# Altium integrated library Lattice FPGA XP2.IntLib: 160 symbols (part 15 of 34)
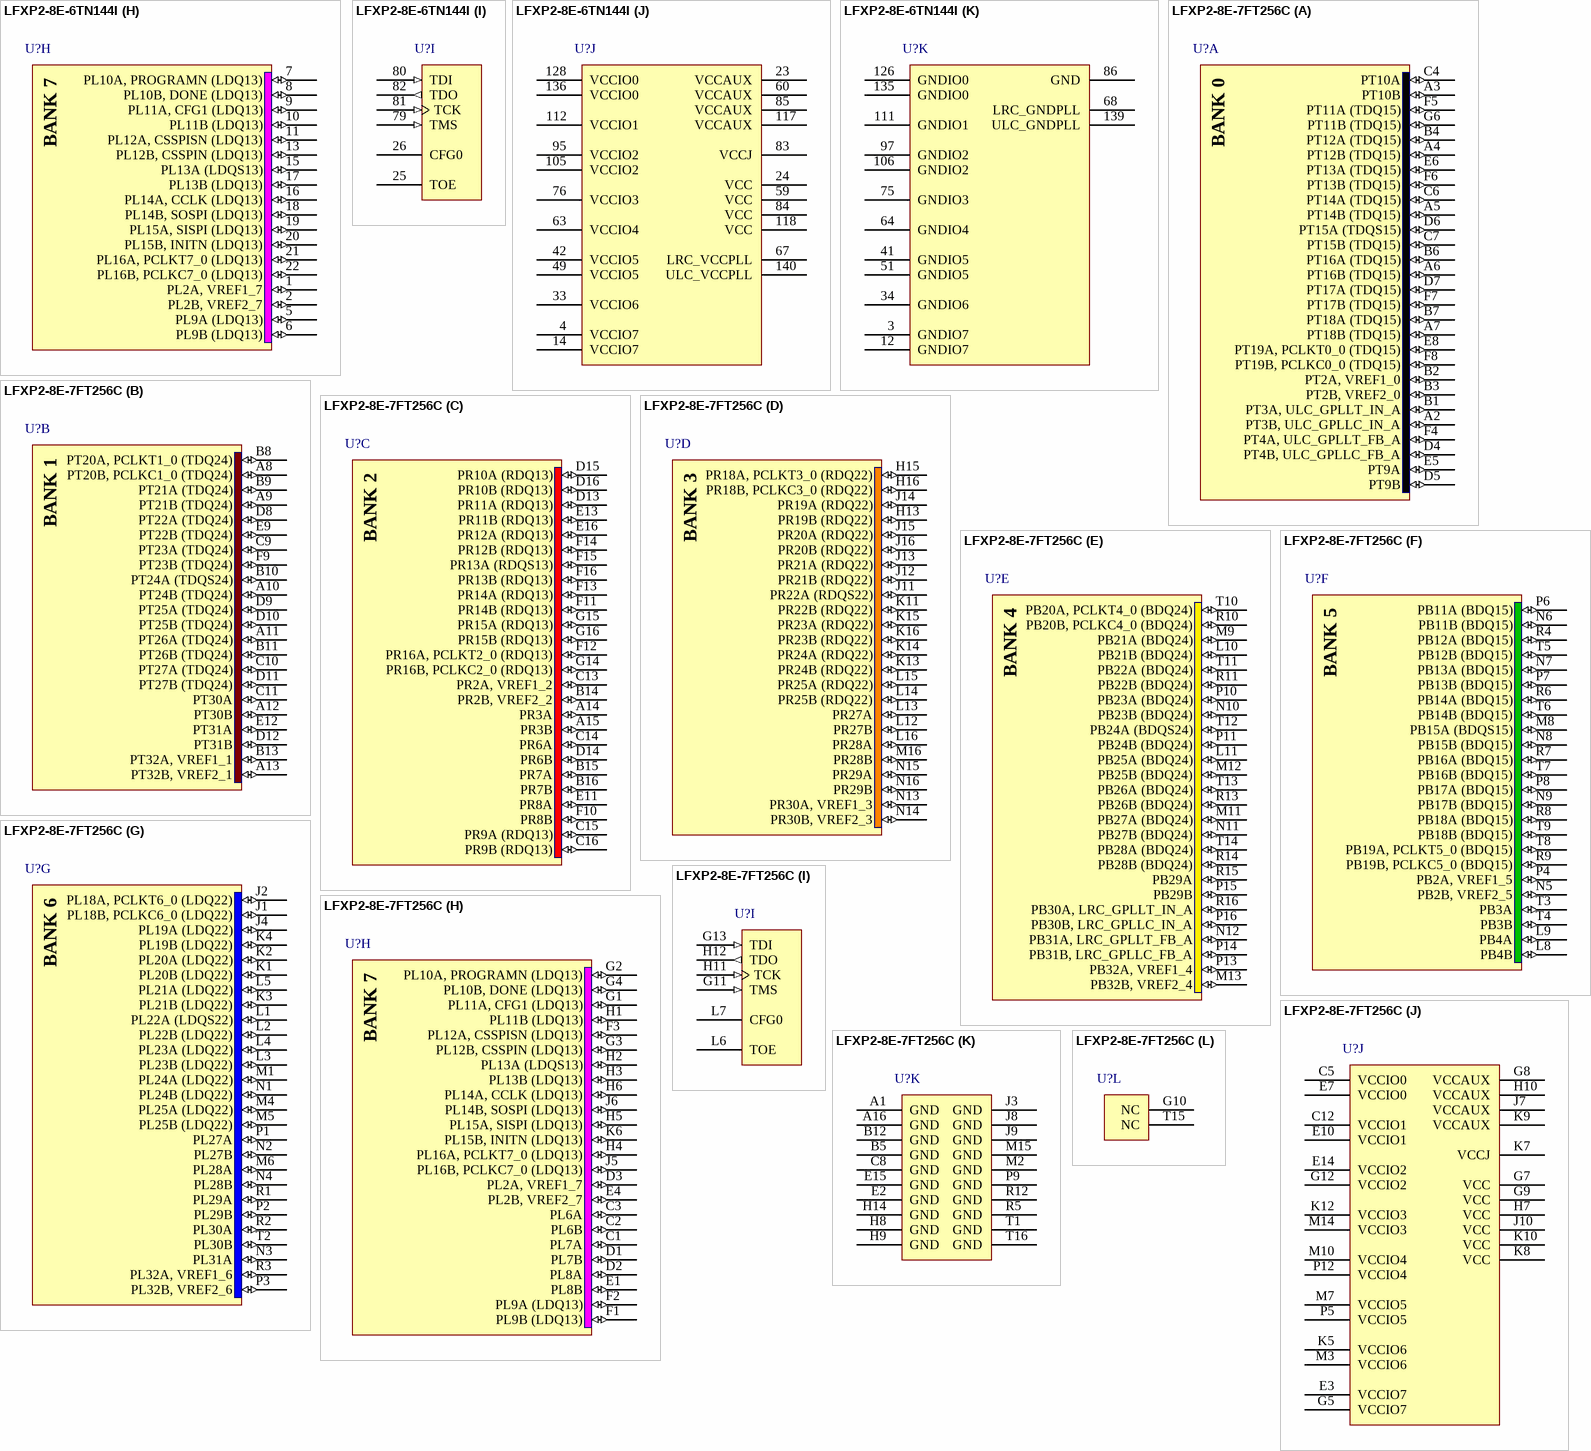
[diagram p180: symbols LFXP2-8E-6TN144I to LFXP2-8E-7FT256C]

## LFXP2-8E-7FT256C
designator U?
XP2, 1.2V FPGA, 201 I/Os, 8K LUTs, 256-Pin ftBGA, Speed Grade 7, Commercial Grade; Published: 18-Jun-2008; DatasheetVersion: ver01.8, Jun-2008; PackageVersion: ver01.6 Apr-2008; PackageReference: ftBGA256; Publisher: Altium Limited; PackageDescription: 256-Ball Fine Thin Ball Grid Array (ftBGA256); ComponentLink1Description: Manufacturer Link; ComponentLink1URL: http://www.latticesemi.com/products/fpga/xp2/index.cfm; ComponentLink2Description: Datasheet; ComponentLink2URL: http://www.latticesemi.com/documents/DS1009.pdf; ComponentLink3Description: Packaging Specification; ComponentLink3URL: http://www.latticesemi.com/lit/docs/package/pkg.pdf
footprint ftBGA256 (BGA, 256-Leads, Body 17x17mm, Pitch 1mm)
3D model LFXP2-8E-FT256 (256-Ball Fine Thin Ball Grid Array (ftBGA256))
part A pins: A2 PT3B, ULC_GPLLC_IN_A (io), A3 PT10B (io), A4 PT12B (TDQ15) (io), A5 PT14B (TDQ15) (io), A6 PT16B (TDQ15) (io), A7 PT18B (TDQ15) (io), B1 PT3A, ULC_GPLLT_IN_A (io), B2 PT2A, VREF1_0 (io), B3 PT2B, VREF2_0 (io), B4 PT12A (TDQ15) (io), B6 PT16A (TDQ15) (io), B7 PT18A (TDQ15) (io), C4 PT10A (io), C6 PT14A (TDQ15) (io), C7 PT15B (TDQ15) (io), D4 PT4B, ULC_GPLLC_FB_A (io), D5 PT9B (io), D6 PT15A (TDQS15) (io), D7 PT17A (TDQ15) (io), E5 PT9A (io), E6 PT13A (TDQ15) (io), E8 PT19A, PCLKT0_0 (TDQ15) (io), F4 PT4A, ULC_GPLLT_FB_A (io), F5 PT11A (TDQ15) (io), F6 PT13B (TDQ15) (io), F7 PT17B (TDQ15) (io), F8 PT19B, PCLKC0_0 (TDQ15) (io), G6 PT11B (TDQ15) (io)
part B pins: A8 PT20B, PCLKC1_0 (TDQ24) (io), A9 PT21B (TDQ24) (io), A10 PT24B (TDQ24) (io), A11 PT26A (TDQ24) (io), A12 PT30B (io), A13 PT32B, VREF2_1 (io), B8 PT20A, PCLKT1_0 (TDQ24) (io), B9 PT21A (TDQ24) (io), B10 PT24A (TDQS24) (io), B11 PT26B (TDQ24) (io), B13 PT32A, VREF1_1 (io), C9 PT23A (TDQ24) (io), C10 PT27A (TDQ24) (io), C11 PT30A (io), D8 PT22A (TDQ24) (io), D9 PT25A (TDQ24) (io), D10 PT25B (TDQ24) (io), D11 PT27B (TDQ24) (io), D12 PT31B (io), E9 PT22B (TDQ24) (io), E12 PT31A (io), F9 PT23B (TDQ24) (io)
part C pins: A14 PR3A (io), A15 PR3B (io), B14 PR2B, VREF2_2 (io), B15 PR7A (io), B16 PR7B (io), C13 PR2A, VREF1_2 (io), C14 PR6A (io), C15 PR9A (RDQ13) (io), C16 PR9B (RDQ13) (io), D13 PR11A (RDQ13) (io), D14 PR6B (io), D15 PR10A (RDQ13) (io), D16 PR10B (RDQ13) (io), E11 PR8A (io), E13 PR11B (RDQ13) (io), E16 PR12A (RDQ13) (io), F10 PR8B (io), F11 PR14B (RDQ13) (io), F12 PR16A, PCLKT2_0 (RDQ13) (io), F13 PR14A (RDQ13) (io), F14 PR12B (RDQ13) (io), F15 PR13A (RDQS13) (io), F16 PR13B (RDQ13) (io), G14 PR16B, PCLKC2_0 (RDQ13) (io), G15 PR15A (RDQ13) (io), G16 PR15B (RDQ13) (io)
part D pins: H13 PR19B (RDQ22) (io), H15 PR18A, PCLKT3_0 (RDQ22) (io), H16 PR18B, PCLKC3_0 (RDQ22) (io), J11 PR22A (RDQS22) (io), J12 PR21B (RDQ22) (io), J13 PR21A (RDQ22) (io), J14 PR19A (RDQ22) (io), J15 PR20A (RDQ22) (io), J16 PR20B (RDQ22) (io), K11 PR22B (RDQ22) (io), K13 PR24B (RDQ22) (io), K14 PR24A (RDQ22) (io), K15 PR23A (RDQ22) (io), K16 PR23B (RDQ22) (io), L12 PR27B (io), L13 PR27A (io), L14 PR25B (RDQ22) (io), L15 PR25A (RDQ22) (io), L16 PR28A (io), M16 PR28B (io), N13 PR30A, VREF1_3 (io), N14 PR30B, VREF2_3 (io), N15 PR29A (io), N16 PR29B (io)
part E pins: L10 PB21B (BDQ24) (io), L11 PB25A (BDQ24) (io), M9 PB21A (BDQ24) (io), M11 PB27A (BDQ24) (io), M12 PB25B (BDQ24) (io), M13 PB32B, VREF2_4 (io), N10 PB23B (BDQ24) (io), N11 PB27B (BDQ24) (io), N12 PB31A, LRC_GPLLT_FB_A (io), P10 PB23A (BDQ24) (io), P11 PB24B (BDQ24) (io), P13 PB32A, VREF1_4 (io), P14 PB31B, LRC_GPLLC_FB_A (io), P15 PB29B (io), P16 PB30B, LRC_GPLLC_IN_A (io), R10 PB20B, PCLKC4_0 (BDQ24) (io), R11 PB22B (BDQ24) (io), R13 PB26B (BDQ24) (io), R14 PB28B (BDQ24) (io), R15 PB29A (io), R16 PB30A, LRC_GPLLT_IN_A (io), T10 PB20A, PCLKT4_0 (BDQ24) (io), T11 PB22A (BDQ24) (io), T12 PB24A (BDQS24) (io), T13 PB26A (BDQ24) (io), T14 PB28A (BDQ24) (io)
part F pins: L8 PB4B (io), L9 PB4A (io), M8 PB15A (BDQS15) (io), N5 PB2B, VREF2_5 (io), N6 PB11B (BDQ15) (io), N7 PB13A (BDQ15) (io), N8 PB15B (BDQ15) (io), N9 PB17B (BDQ15) (io), P4 PB2A, VREF1_5 (io), P6 PB11A (BDQ15) (io), P7 PB13B (BDQ15) (io), P8 PB17A (BDQ15) (io), R4 PB12A (BDQ15) (io), R6 PB14A (BDQ15) (io), R7 PB16A (BDQ15) (io), R8 PB18A (BDQ15) (io), R9 PB19B, PCLKC5_0 (BDQ15) (io), T3 PB3A (io), T4 PB3B (io), T5 PB12B (BDQ15) (io), T6 PB14B (BDQ15) (io), T7 PB16B (BDQ15) (io), T8 PB19A, PCLKT5_0 (BDQ15) (io), T9 PB18B (BDQ15) (io)
part G pins: J1 PL18B, PCLKC6_0 (LDQ22) (io), J2 PL18A, PCLKT6_0 (LDQ22) (io), J4 PL19A (LDQ22) (io), K1 PL20B (LDQ22) (io), K2 PL20A (LDQ22) (io), K3 PL21B (LDQ22) (io), K4 PL19B (LDQ22) (io), L1 PL22A (LDQS22) (io), L2 PL22B (LDQ22) (io), L3 PL23B (LDQ22) (io), L4 PL23A (LDQ22) (io), L5 PL21A (LDQ22) (io), M1 PL24A (LDQ22) (io), M4 PL25A (LDQ22) (io), M5 PL25B (LDQ22) (io), M6 PL28A (io), N1 PL24B (LDQ22) (io), N2 PL27B (io), N3 PL31A (io), N4 PL28B (io), P1 PL27A (io), P2 PL29B (io), P3 PL32B, VREF2_6 (io), R1 PL29A (io), R2 PL30A (io), R3 PL32A, VREF1_6 (io), T2 PL30B (io)
part H pins: C1 PL7A (io), C2 PL6B (io), C3 PL6A (io), D1 PL7B (io), D2 PL8A (io), D3 PL2A, VREF1_7 (io), E1 PL8B (io), E4 PL2B, VREF2_7 (io), F1 PL9B (LDQ13) (io), F2 PL9A (LDQ13) (io), F3 PL12A, CSSPISN (LDQ13) (io), G1 PL11A, CFG1 (LDQ13) (io), G2 PL10A, PROGRAMN (LDQ13) (io), G3 PL12B, CSSPIN (LDQ13) (io), G4 PL10B, DONE (LDQ13) (io), H1 PL11B (LDQ13) (io), H2 PL13A (LDQS13) (io), H3 PL13B (LDQ13) (io), H4 PL16A, PCLKT7_0 (LDQ13) (io), H5 PL15A, SISPI (LDQ13) (io), H6 PL14A, CCLK (LDQ13) (io), J5 PL16B, PCLKC7_0 (LDQ13) (io), J6 PL14B, SOSPI (LDQ13) (io), K6 PL15B, INITN (LDQ13) (io)
part I pins: G11 TMS (in), G13 TDI (in), H11 TCK (in), H12 TDO (out), L6 TOE, L7 CFG0
part J pins: C5 VCCIO0 (power), C12 VCCIO1 (power), E3 VCCIO7 (power), E7 VCCIO0 (power), E10 VCCIO1 (power), E14 VCCIO2 (power), G5 VCCIO7 (power), G7 VCC (power), G8 VCCAUX (power), G9 VCC (power), G12 VCCIO2 (power), H7 VCC (power), H10 VCCAUX (power), J7 VCCAUX (power), J10 VCC (power), K5 VCCIO6 (power), K7 VCCJ (power), K8 VCC (power), K9 VCCAUX (power), K10 VCC (power), K12 VCCIO3 (power), M3 VCCIO6 (power), M7 VCCIO5 (power), M10 VCCIO4 (power), M14 VCCIO3 (power), P5 VCCIO5 (power), P12 VCCIO4 (power)
part K pins: A1 GND (power), A16 GND (power), B5 GND (power), B12 GND (power), C8 GND (power), E2 GND (power), E15 GND (power), H8 GND (power), H9 GND (power), H14 GND (power), J3 GND (power), J8 GND (power), J9 GND (power), M2 GND (power), M15 GND (power), P9 GND (power), R5 GND (power), R12 GND (power), T1 GND (power), T16 GND (power)
part L pins: G10 NC, T15 NC
part A text: BANK 0
part B text: BANK 1
part C text: BANK 2
part D text: BANK 3
part E text: BANK 4
part F text: BANK 5
part G text: BANK 6
part H text: BANK 7

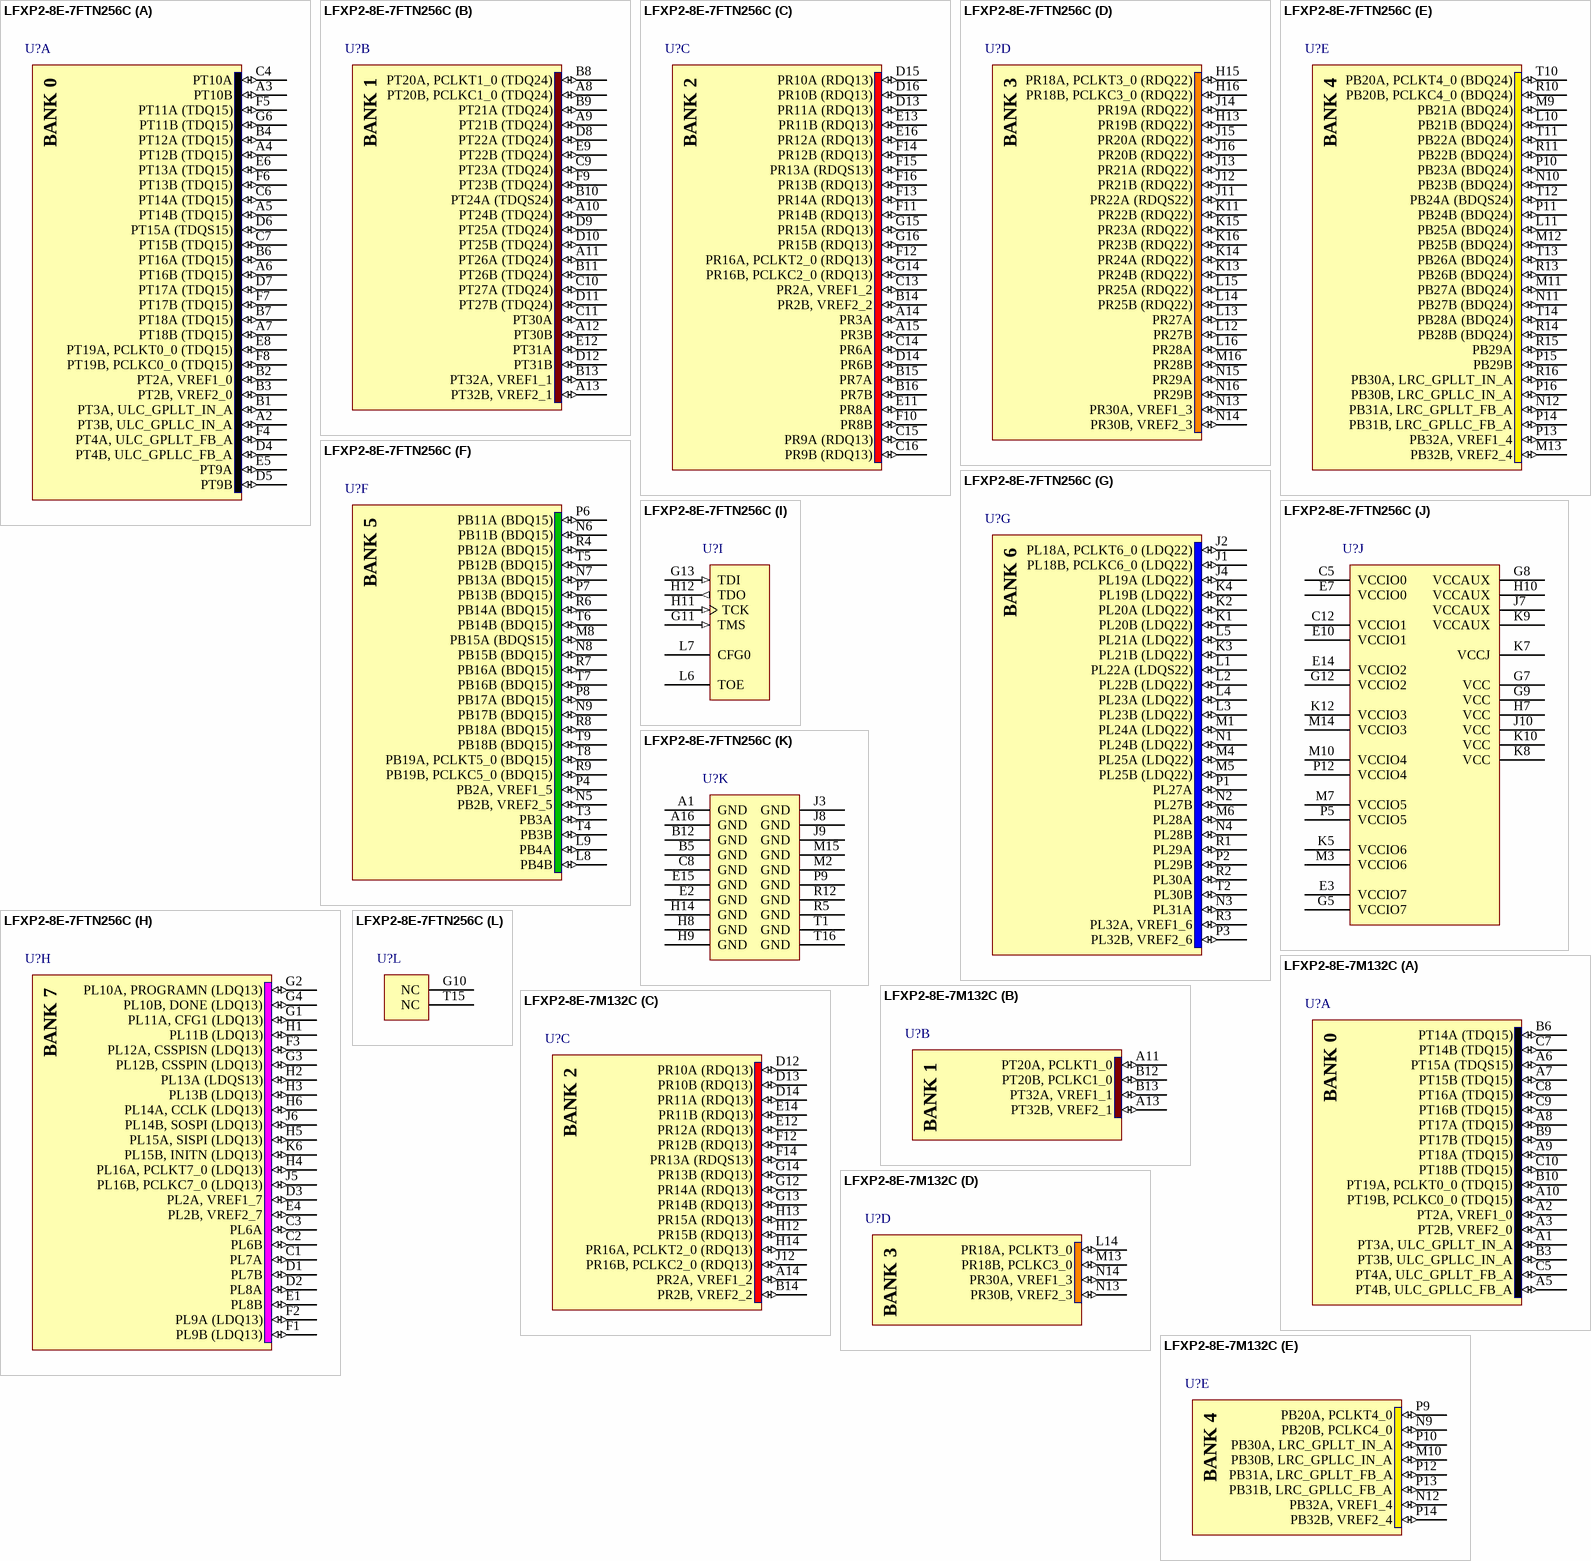
[diagram p47: symbols LFXP2-8E-7FTN256C to LFXP2-8E-7M132C]

## LFXP2-8E-7FTN256C
designator U?
XP2, 1.2V FPGA, 201 I/Os, 8K LUTs, 256-Pin ftBGA, Speed Grade 7, Commercial Grade, Pb-Free; Published: 18-Jun-2008; DatasheetVersion: ver01.8, Jun-2008; PackageVersion: ver01.6 Apr-2008; PackageReference: ftBGA256; Publisher: Altium Limited; PackageDescription: 256-Ball Fine Thin Ball Grid Array (ftBGA256); ComponentLink1Description: Manufacturer Link; ComponentLink1URL: http://www.latticesemi.com/products/fpga/xp2/index.cfm; ComponentLink2Description: Datasheet; ComponentLink2URL: http://www.latticesemi.com/documents/DS1009.pdf; ComponentLink3Description: Packaging Specification; ComponentLink3URL: http://www.latticesemi.com/lit/docs/package/pkg.pdf
footprint ftBGA256 (BGA, 256-Leads, Body 17x17mm, Pitch 1mm)
3D model LFXP2-8E-FT256 (256-Ball Fine Thin Ball Grid Array (ftBGA256))
part A pins: A2 PT3B, ULC_GPLLC_IN_A (io), A3 PT10B (io), A4 PT12B (TDQ15) (io), A5 PT14B (TDQ15) (io), A6 PT16B (TDQ15) (io), A7 PT18B (TDQ15) (io), B1 PT3A, ULC_GPLLT_IN_A (io), B2 PT2A, VREF1_0 (io), B3 PT2B, VREF2_0 (io), B4 PT12A (TDQ15) (io), B6 PT16A (TDQ15) (io), B7 PT18A (TDQ15) (io), C4 PT10A (io), C6 PT14A (TDQ15) (io), C7 PT15B (TDQ15) (io), D4 PT4B, ULC_GPLLC_FB_A (io), D5 PT9B (io), D6 PT15A (TDQS15) (io), D7 PT17A (TDQ15) (io), E5 PT9A (io), E6 PT13A (TDQ15) (io), E8 PT19A, PCLKT0_0 (TDQ15) (io), F4 PT4A, ULC_GPLLT_FB_A (io), F5 PT11A (TDQ15) (io), F6 PT13B (TDQ15) (io), F7 PT17B (TDQ15) (io), F8 PT19B, PCLKC0_0 (TDQ15) (io), G6 PT11B (TDQ15) (io)
part B pins: A8 PT20B, PCLKC1_0 (TDQ24) (io), A9 PT21B (TDQ24) (io), A10 PT24B (TDQ24) (io), A11 PT26A (TDQ24) (io), A12 PT30B (io), A13 PT32B, VREF2_1 (io), B8 PT20A, PCLKT1_0 (TDQ24) (io), B9 PT21A (TDQ24) (io), B10 PT24A (TDQS24) (io), B11 PT26B (TDQ24) (io), B13 PT32A, VREF1_1 (io), C9 PT23A (TDQ24) (io), C10 PT27A (TDQ24) (io), C11 PT30A (io), D8 PT22A (TDQ24) (io), D9 PT25A (TDQ24) (io), D10 PT25B (TDQ24) (io), D11 PT27B (TDQ24) (io), D12 PT31B (io), E9 PT22B (TDQ24) (io), E12 PT31A (io), F9 PT23B (TDQ24) (io)
part C pins: A14 PR3A (io), A15 PR3B (io), B14 PR2B, VREF2_2 (io), B15 PR7A (io), B16 PR7B (io), C13 PR2A, VREF1_2 (io), C14 PR6A (io), C15 PR9A (RDQ13) (io), C16 PR9B (RDQ13) (io), D13 PR11A (RDQ13) (io), D14 PR6B (io), D15 PR10A (RDQ13) (io), D16 PR10B (RDQ13) (io), E11 PR8A (io), E13 PR11B (RDQ13) (io), E16 PR12A (RDQ13) (io), F10 PR8B (io), F11 PR14B (RDQ13) (io), F12 PR16A, PCLKT2_0 (RDQ13) (io), F13 PR14A (RDQ13) (io), F14 PR12B (RDQ13) (io), F15 PR13A (RDQS13) (io), F16 PR13B (RDQ13) (io), G14 PR16B, PCLKC2_0 (RDQ13) (io), G15 PR15A (RDQ13) (io), G16 PR15B (RDQ13) (io)
part D pins: H13 PR19B (RDQ22) (io), H15 PR18A, PCLKT3_0 (RDQ22) (io), H16 PR18B, PCLKC3_0 (RDQ22) (io), J11 PR22A (RDQS22) (io), J12 PR21B (RDQ22) (io), J13 PR21A (RDQ22) (io), J14 PR19A (RDQ22) (io), J15 PR20A (RDQ22) (io), J16 PR20B (RDQ22) (io), K11 PR22B (RDQ22) (io), K13 PR24B (RDQ22) (io), K14 PR24A (RDQ22) (io), K15 PR23A (RDQ22) (io), K16 PR23B (RDQ22) (io), L12 PR27B (io), L13 PR27A (io), L14 PR25B (RDQ22) (io), L15 PR25A (RDQ22) (io), L16 PR28A (io), M16 PR28B (io), N13 PR30A, VREF1_3 (io), N14 PR30B, VREF2_3 (io), N15 PR29A (io), N16 PR29B (io)
part E pins: L10 PB21B (BDQ24) (io), L11 PB25A (BDQ24) (io), M9 PB21A (BDQ24) (io), M11 PB27A (BDQ24) (io), M12 PB25B (BDQ24) (io), M13 PB32B, VREF2_4 (io), N10 PB23B (BDQ24) (io), N11 PB27B (BDQ24) (io), N12 PB31A, LRC_GPLLT_FB_A (io), P10 PB23A (BDQ24) (io), P11 PB24B (BDQ24) (io), P13 PB32A, VREF1_4 (io), P14 PB31B, LRC_GPLLC_FB_A (io), P15 PB29B (io), P16 PB30B, LRC_GPLLC_IN_A (io), R10 PB20B, PCLKC4_0 (BDQ24) (io), R11 PB22B (BDQ24) (io), R13 PB26B (BDQ24) (io), R14 PB28B (BDQ24) (io), R15 PB29A (io), R16 PB30A, LRC_GPLLT_IN_A (io), T10 PB20A, PCLKT4_0 (BDQ24) (io), T11 PB22A (BDQ24) (io), T12 PB24A (BDQS24) (io), T13 PB26A (BDQ24) (io), T14 PB28A (BDQ24) (io)
part F pins: L8 PB4B (io), L9 PB4A (io), M8 PB15A (BDQS15) (io), N5 PB2B, VREF2_5 (io), N6 PB11B (BDQ15) (io), N7 PB13A (BDQ15) (io), N8 PB15B (BDQ15) (io), N9 PB17B (BDQ15) (io), P4 PB2A, VREF1_5 (io), P6 PB11A (BDQ15) (io), P7 PB13B (BDQ15) (io), P8 PB17A (BDQ15) (io), R4 PB12A (BDQ15) (io), R6 PB14A (BDQ15) (io), R7 PB16A (BDQ15) (io), R8 PB18A (BDQ15) (io), R9 PB19B, PCLKC5_0 (BDQ15) (io), T3 PB3A (io), T4 PB3B (io), T5 PB12B (BDQ15) (io), T6 PB14B (BDQ15) (io), T7 PB16B (BDQ15) (io), T8 PB19A, PCLKT5_0 (BDQ15) (io), T9 PB18B (BDQ15) (io)
part G pins: J1 PL18B, PCLKC6_0 (LDQ22) (io), J2 PL18A, PCLKT6_0 (LDQ22) (io), J4 PL19A (LDQ22) (io), K1 PL20B (LDQ22) (io), K2 PL20A (LDQ22) (io), K3 PL21B (LDQ22) (io), K4 PL19B (LDQ22) (io), L1 PL22A (LDQS22) (io), L2 PL22B (LDQ22) (io), L3 PL23B (LDQ22) (io), L4 PL23A (LDQ22) (io), L5 PL21A (LDQ22) (io), M1 PL24A (LDQ22) (io), M4 PL25A (LDQ22) (io), M5 PL25B (LDQ22) (io), M6 PL28A (io), N1 PL24B (LDQ22) (io), N2 PL27B (io), N3 PL31A (io), N4 PL28B (io), P1 PL27A (io), P2 PL29B (io), P3 PL32B, VREF2_6 (io), R1 PL29A (io), R2 PL30A (io), R3 PL32A, VREF1_6 (io), T2 PL30B (io)
part H pins: C1 PL7A (io), C2 PL6B (io), C3 PL6A (io), D1 PL7B (io), D2 PL8A (io), D3 PL2A, VREF1_7 (io), E1 PL8B (io), E4 PL2B, VREF2_7 (io), F1 PL9B (LDQ13) (io), F2 PL9A (LDQ13) (io), F3 PL12A, CSSPISN (LDQ13) (io), G1 PL11A, CFG1 (LDQ13) (io), G2 PL10A, PROGRAMN (LDQ13) (io), G3 PL12B, CSSPIN (LDQ13) (io), G4 PL10B, DONE (LDQ13) (io), H1 PL11B (LDQ13) (io), H2 PL13A (LDQS13) (io), H3 PL13B (LDQ13) (io), H4 PL16A, PCLKT7_0 (LDQ13) (io), H5 PL15A, SISPI (LDQ13) (io), H6 PL14A, CCLK (LDQ13) (io), J5 PL16B, PCLKC7_0 (LDQ13) (io), J6 PL14B, SOSPI (LDQ13) (io), K6 PL15B, INITN (LDQ13) (io)
part I pins: G11 TMS (in), G13 TDI (in), H11 TCK (in), H12 TDO (out), L6 TOE, L7 CFG0
part J pins: C5 VCCIO0 (power), C12 VCCIO1 (power), E3 VCCIO7 (power), E7 VCCIO0 (power), E10 VCCIO1 (power), E14 VCCIO2 (power), G5 VCCIO7 (power), G7 VCC (power), G8 VCCAUX (power), G9 VCC (power), G12 VCCIO2 (power), H7 VCC (power), H10 VCCAUX (power), J7 VCCAUX (power), J10 VCC (power), K5 VCCIO6 (power), K7 VCCJ (power), K8 VCC (power), K9 VCCAUX (power), K10 VCC (power), K12 VCCIO3 (power), M3 VCCIO6 (power), M7 VCCIO5 (power), M10 VCCIO4 (power), M14 VCCIO3 (power), P5 VCCIO5 (power), P12 VCCIO4 (power)
part K pins: A1 GND (power), A16 GND (power), B5 GND (power), B12 GND (power), C8 GND (power), E2 GND (power), E15 GND (power), H8 GND (power), H9 GND (power), H14 GND (power), J3 GND (power), J8 GND (power), J9 GND (power), M2 GND (power), M15 GND (power), P9 GND (power), R5 GND (power), R12 GND (power), T1 GND (power), T16 GND (power)
part L pins: G10 NC, T15 NC
part A text: BANK 0
part B text: BANK 1
part C text: BANK 2
part D text: BANK 3
part E text: BANK 4
part F text: BANK 5
part G text: BANK 6
part H text: BANK 7

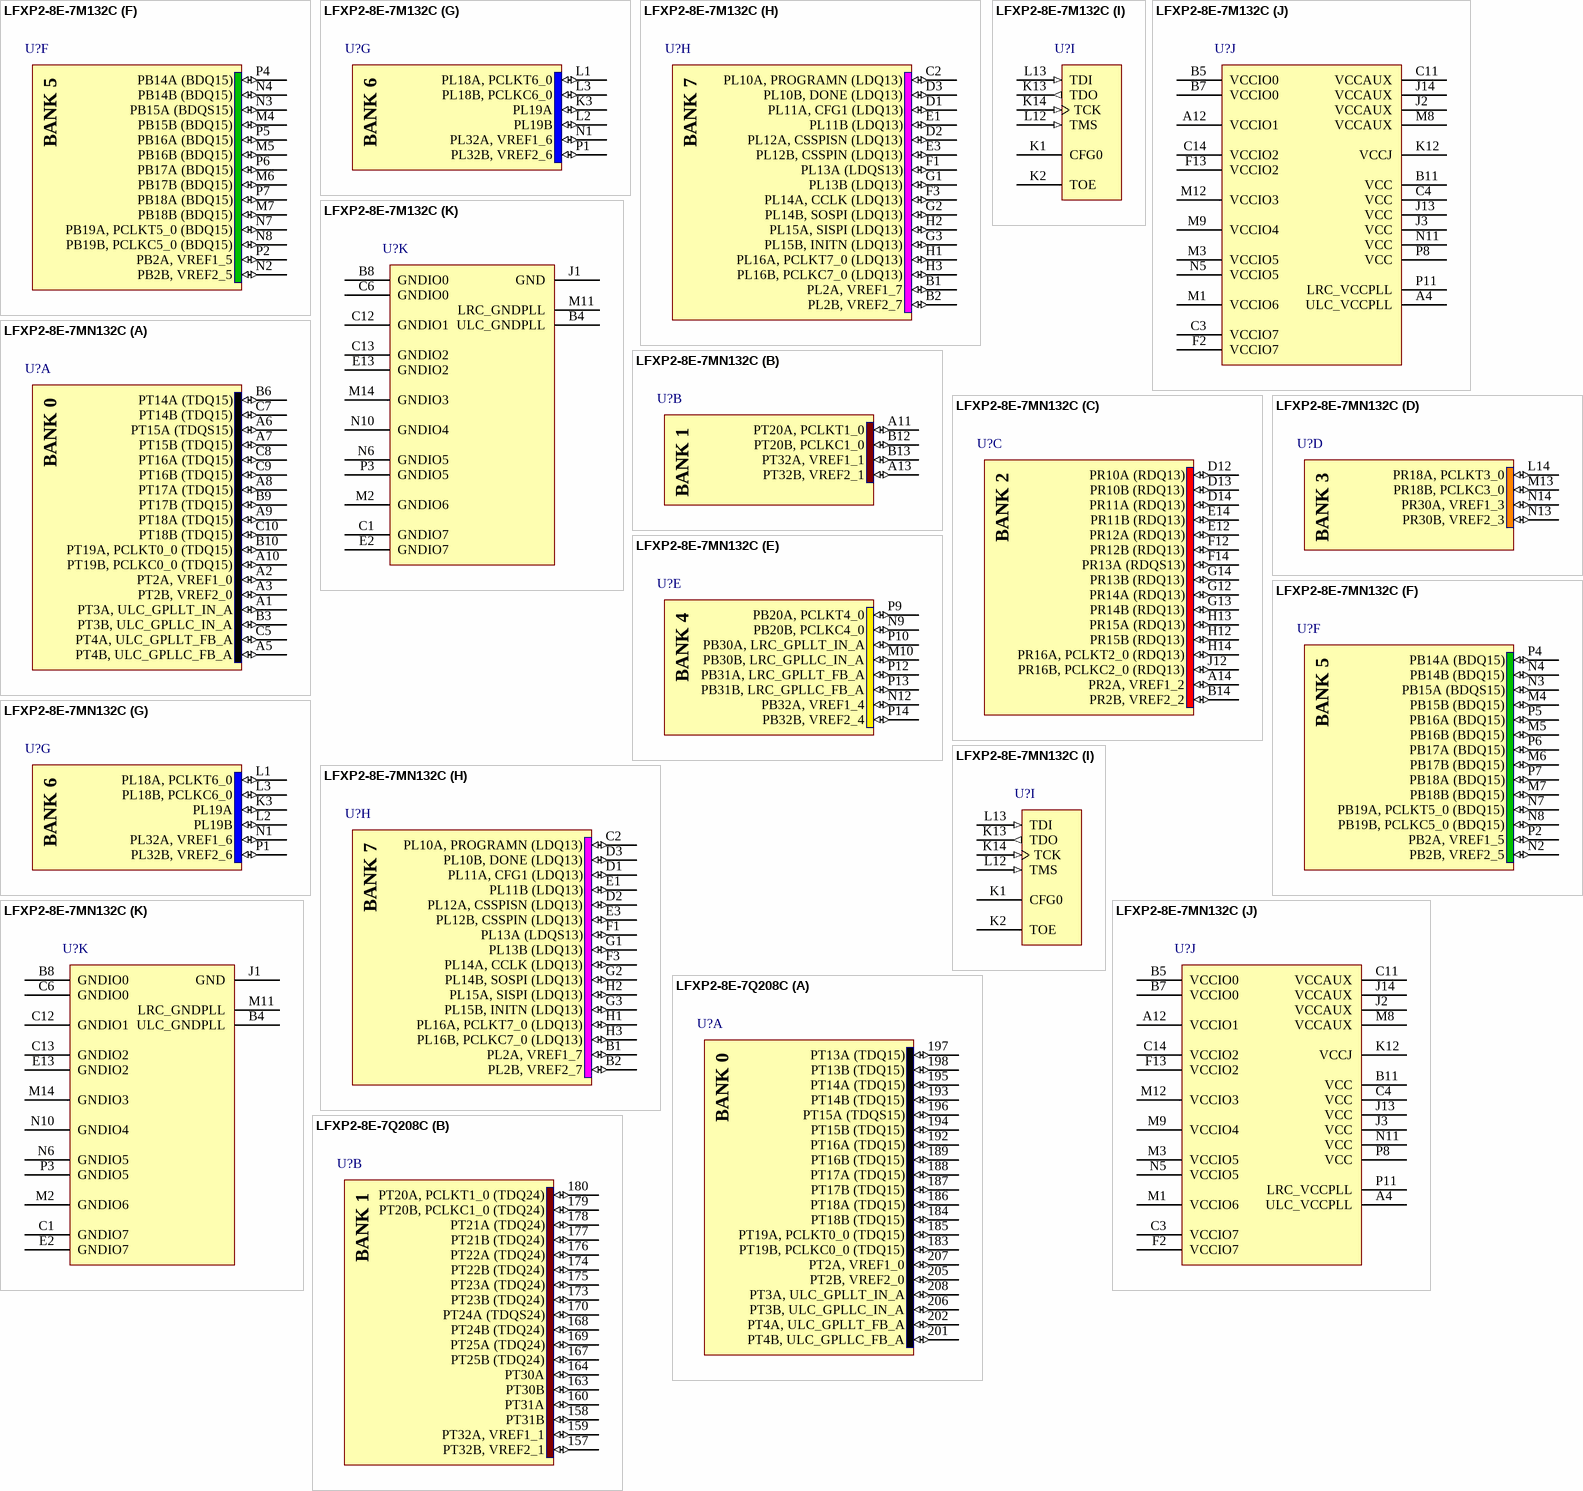
[diagram p48: symbols LFXP2-8E-7M132C to LFXP2-8E-7Q208C]

## LFXP2-8E-7M132C
designator U?
XP2, 1.2V FPGA, 86 I/Os, 8K LUTs, 132-Pin csBGA, Speed Grade 7, Commercial Grade; Published: 18-Jun-2008; DatasheetVersion: ver01.8, Jun-2008; PackageVersion: ver01.6 Apr-2008; PackageReference: csBGA132; Publisher: Altium Limited; PackageDescription: 132-Ball Chip Scale Ball Grid Array (csBGA132); ComponentLink1Description: Manufacturer Link; ComponentLink1URL: http://www.latticesemi.com/products/fpga/xp2/index.cfm; ComponentLink2Description: Datasheet; ComponentLink2URL: http://www.latticesemi.com/documents/DS1009.pdf; ComponentLink3Description: Packaging Specification; ComponentLink3URL: http://www.latticesemi.com/lit/docs/package/pkg.pdf
footprint csBGA132 (BGA, 132-Leads, Body 8x8mm, Pitch 0.5mm)
3D model LFXP2-8E-M132 (132-Ball Chip Scale Ball Grid Array (csBGA132))
part A pins: A1 PT3A, ULC_GPLLT_IN_A (io), A2 PT2A, VREF1_0 (io), A3 PT2B, VREF2_0 (io), A5 PT4B, ULC_GPLLC_FB_A (io), A6 PT15A (TDQS15) (io), A7 PT15B (TDQ15) (io), A8 PT17A (TDQ15) (io), A9 PT18A (TDQ15) (io), A10 PT19B, PCLKC0_0 (TDQ15) (io), B3 PT3B, ULC_GPLLC_IN_A (io), B6 PT14A (TDQ15) (io), B9 PT17B (TDQ15) (io), B10 PT19A, PCLKT0_0 (TDQ15) (io), C5 PT4A, ULC_GPLLT_FB_A (io), C7 PT14B (TDQ15) (io), C8 PT16A (TDQ15) (io), C9 PT16B (TDQ15) (io), C10 PT18B (TDQ15) (io)
part B pins: A11 PT20A, PCLKT1_0 (io), A13 PT32B, VREF2_1 (io), B12 PT20B, PCLKC1_0 (io), B13 PT32A, VREF1_1 (io)
part C pins: A14 PR2A, VREF1_2 (io), B14 PR2B, VREF2_2 (io), D12 PR10A (RDQ13) (io), D13 PR10B (RDQ13) (io), D14 PR11A (RDQ13) (io), E12 PR12A (RDQ13) (io), E14 PR11B (RDQ13) (io), F12 PR12B (RDQ13) (io), F14 PR13A (RDQS13) (io), G12 PR14A (RDQ13) (io), G13 PR14B (RDQ13) (io), G14 PR13B (RDQ13) (io), H12 PR15B (RDQ13) (io), H13 PR15A (RDQ13) (io), H14 PR16A, PCLKT2_0 (RDQ13) (io), J12 PR16B, PCLKC2_0 (RDQ13) (io)
part D pins: L14 PR18A, PCLKT3_0 (io), M13 PR18B, PCLKC3_0 (io), N13 PR30B, VREF2_3 (io), N14 PR30A, VREF1_3 (io)
part E pins: M10 PB30B, LRC_GPLLC_IN_A (io), N9 PB20B, PCLKC4_0 (io), N12 PB32A, VREF1_4 (io), P9 PB20A, PCLKT4_0 (io), P10 PB30A, LRC_GPLLT_IN_A (io), P12 PB31A, LRC_GPLLT_FB_A (io), P13 PB31B, LRC_GPLLC_FB_A (io), P14 PB32B, VREF2_4 (io)
part F pins: M4 PB15B (BDQ15) (io), M5 PB16B (BDQ15) (io), M6 PB17B (BDQ15) (io), M7 PB18B (BDQ15) (io), N2 PB2B, VREF2_5 (io), N3 PB15A (BDQS15) (io), N4 PB14B (BDQ15) (io), N7 PB19A, PCLKT5_0 (BDQ15) (io), N8 PB19B, PCLKC5_0 (BDQ15) (io), P2 PB2A, VREF1_5 (io), P4 PB14A (BDQ15) (io), P5 PB16A (BDQ15) (io), P6 PB17A (BDQ15) (io), P7 PB18A (BDQ15) (io)
part G pins: K3 PL19A (io), L1 PL18A, PCLKT6_0 (io), L2 PL19B (io), L3 PL18B, PCLKC6_0 (io), N1 PL32A, VREF1_6 (io), P1 PL32B, VREF2_6 (io)
part H pins: B1 PL2A, VREF1_7 (io), B2 PL2B, VREF2_7 (io), C2 PL10A, PROGRAMN (LDQ13) (io), D1 PL11A, CFG1 (LDQ13) (io), D2 PL12A, CSSPISN (LDQ13) (io), D3 PL10B, DONE (LDQ13) (io), E1 PL11B (LDQ13) (io), E3 PL12B, CSSPIN (LDQ13) (io), F1 PL13A (LDQS13) (io), F3 PL14A, CCLK (LDQ13) (io), G1 PL13B (LDQ13) (io), G2 PL14B, SOSPI (LDQ13) (io), G3 PL15B, INITN (LDQ13) (io), H1 PL16A, PCLKT7_0 (LDQ13) (io), H2 PL15A, SISPI (LDQ13) (io), H3 PL16B, PCLKC7_0 (LDQ13) (io)
part I pins: K1 CFG0, K2 TOE, K13 TDO (out), K14 TCK (in), L12 TMS (in), L13 TDI (in)
part J pins: A4 ULC_VCCPLL (power), A12 VCCIO1 (power), B5 VCCIO0 (power), B7 VCCIO0 (power), B11 VCC (power), C3 VCCIO7 (power), C4 VCC (power), C11 VCCAUX (power), C14 VCCIO2 (power), F2 VCCIO7 (power), F13 VCCIO2 (power), J2 VCCAUX (power), J3 VCC (power), J13 VCC (power), J14 VCCAUX (power), K12 VCCJ (power), M1 VCCIO6 (power), M3 VCCIO5 (power), M8 VCCAUX (power), M9 VCCIO4 (power), M12 VCCIO3 (power), N5 VCCIO5 (power), N11 VCC (power), P8 VCC (power), P11 LRC_VCCPLL (power)
part K pins: B4 ULC_GNDPLL (power), B8 GNDIO0 (power), C1 GNDIO7 (power), C6 GNDIO0 (power), C12 GNDIO1 (power), C13 GNDIO2 (power), E2 GNDIO7 (power), E13 GNDIO2 (power), J1 GND (power), M2 GNDIO6 (power), M11 LRC_GNDPLL (power), M14 GNDIO3 (power), N6 GNDIO5 (power), N10 GNDIO4 (power), P3 GNDIO5 (power)
part A text: BANK 0
part B text: BANK 1
part C text: BANK 2
part D text: BANK 3
part E text: BANK 4
part F text: BANK 5
part G text: BANK 6
part H text: BANK 7

## LFXP2-8E-7MN132C
designator U?
XP2, 1.2V FPGA, 86 I/Os, 8K LUTs, 132-Pin csBGA, Speed Grade 7, Commercial Grade, Pb-Free; Published: 18-Jun-2008; DatasheetVersion: ver01.8, Jun-2008; PackageVersion: ver01.6 Apr-2008; PackageReference: csBGA132; Publisher: Altium Limited; PackageDescription: 132-Ball Chip Scale Ball Grid Array (csBGA132); ComponentLink1Description: Manufacturer Link; ComponentLink1URL: http://www.latticesemi.com/products/fpga/xp2/index.cfm; ComponentLink2Description: Datasheet; ComponentLink2URL: http://www.latticesemi.com/documents/DS1009.pdf; ComponentLink3Description: Packaging Specification; ComponentLink3URL: http://www.latticesemi.com/lit/docs/package/pkg.pdf
footprint csBGA132 (BGA, 132-Leads, Body 8x8mm, Pitch 0.5mm)
3D model LFXP2-8E-M132 (132-Ball Chip Scale Ball Grid Array (csBGA132))
part A pins: A1 PT3A, ULC_GPLLT_IN_A (io), A2 PT2A, VREF1_0 (io), A3 PT2B, VREF2_0 (io), A5 PT4B, ULC_GPLLC_FB_A (io), A6 PT15A (TDQS15) (io), A7 PT15B (TDQ15) (io), A8 PT17A (TDQ15) (io), A9 PT18A (TDQ15) (io), A10 PT19B, PCLKC0_0 (TDQ15) (io), B3 PT3B, ULC_GPLLC_IN_A (io), B6 PT14A (TDQ15) (io), B9 PT17B (TDQ15) (io), B10 PT19A, PCLKT0_0 (TDQ15) (io), C5 PT4A, ULC_GPLLT_FB_A (io), C7 PT14B (TDQ15) (io), C8 PT16A (TDQ15) (io), C9 PT16B (TDQ15) (io), C10 PT18B (TDQ15) (io)
part B pins: A11 PT20A, PCLKT1_0 (io), A13 PT32B, VREF2_1 (io), B12 PT20B, PCLKC1_0 (io), B13 PT32A, VREF1_1 (io)
part C pins: A14 PR2A, VREF1_2 (io), B14 PR2B, VREF2_2 (io), D12 PR10A (RDQ13) (io), D13 PR10B (RDQ13) (io), D14 PR11A (RDQ13) (io), E12 PR12A (RDQ13) (io), E14 PR11B (RDQ13) (io), F12 PR12B (RDQ13) (io), F14 PR13A (RDQS13) (io), G12 PR14A (RDQ13) (io), G13 PR14B (RDQ13) (io), G14 PR13B (RDQ13) (io), H12 PR15B (RDQ13) (io), H13 PR15A (RDQ13) (io), H14 PR16A, PCLKT2_0 (RDQ13) (io), J12 PR16B, PCLKC2_0 (RDQ13) (io)
part D pins: L14 PR18A, PCLKT3_0 (io), M13 PR18B, PCLKC3_0 (io), N13 PR30B, VREF2_3 (io), N14 PR30A, VREF1_3 (io)
part E pins: M10 PB30B, LRC_GPLLC_IN_A (io), N9 PB20B, PCLKC4_0 (io), N12 PB32A, VREF1_4 (io), P9 PB20A, PCLKT4_0 (io), P10 PB30A, LRC_GPLLT_IN_A (io), P12 PB31A, LRC_GPLLT_FB_A (io), P13 PB31B, LRC_GPLLC_FB_A (io), P14 PB32B, VREF2_4 (io)
part F pins: M4 PB15B (BDQ15) (io), M5 PB16B (BDQ15) (io), M6 PB17B (BDQ15) (io), M7 PB18B (BDQ15) (io), N2 PB2B, VREF2_5 (io), N3 PB15A (BDQS15) (io), N4 PB14B (BDQ15) (io), N7 PB19A, PCLKT5_0 (BDQ15) (io), N8 PB19B, PCLKC5_0 (BDQ15) (io), P2 PB2A, VREF1_5 (io), P4 PB14A (BDQ15) (io), P5 PB16A (BDQ15) (io), P6 PB17A (BDQ15) (io), P7 PB18A (BDQ15) (io)
part G pins: K3 PL19A (io), L1 PL18A, PCLKT6_0 (io), L2 PL19B (io), L3 PL18B, PCLKC6_0 (io), N1 PL32A, VREF1_6 (io), P1 PL32B, VREF2_6 (io)
part H pins: B1 PL2A, VREF1_7 (io), B2 PL2B, VREF2_7 (io), C2 PL10A, PROGRAMN (LDQ13) (io), D1 PL11A, CFG1 (LDQ13) (io), D2 PL12A, CSSPISN (LDQ13) (io), D3 PL10B, DONE (LDQ13) (io), E1 PL11B (LDQ13) (io), E3 PL12B, CSSPIN (LDQ13) (io), F1 PL13A (LDQS13) (io), F3 PL14A, CCLK (LDQ13) (io), G1 PL13B (LDQ13) (io), G2 PL14B, SOSPI (LDQ13) (io), G3 PL15B, INITN (LDQ13) (io), H1 PL16A, PCLKT7_0 (LDQ13) (io), H2 PL15A, SISPI (LDQ13) (io), H3 PL16B, PCLKC7_0 (LDQ13) (io)
part I pins: K1 CFG0, K2 TOE, K13 TDO (out), K14 TCK (in), L12 TMS (in), L13 TDI (in)
part J pins: A4 ULC_VCCPLL (power), A12 VCCIO1 (power), B5 VCCIO0 (power), B7 VCCIO0 (power), B11 VCC (power), C3 VCCIO7 (power), C4 VCC (power), C11 VCCAUX (power), C14 VCCIO2 (power), F2 VCCIO7 (power), F13 VCCIO2 (power), J2 VCCAUX (power), J3 VCC (power), J13 VCC (power), J14 VCCAUX (power), K12 VCCJ (power), M1 VCCIO6 (power), M3 VCCIO5 (power), M8 VCCAUX (power), M9 VCCIO4 (power), M12 VCCIO3 (power), N5 VCCIO5 (power), N11 VCC (power), P8 VCC (power), P11 LRC_VCCPLL (power)
part K pins: B4 ULC_GNDPLL (power), B8 GNDIO0 (power), C1 GNDIO7 (power), C6 GNDIO0 (power), C12 GNDIO1 (power), C13 GNDIO2 (power), E2 GNDIO7 (power), E13 GNDIO2 (power), J1 GND (power), M2 GNDIO6 (power), M11 LRC_GNDPLL (power), M14 GNDIO3 (power), N6 GNDIO5 (power), N10 GNDIO4 (power), P3 GNDIO5 (power)
part A text: BANK 0
part B text: BANK 1
part C text: BANK 2
part D text: BANK 3
part E text: BANK 4
part F text: BANK 5
part G text: BANK 6
part H text: BANK 7

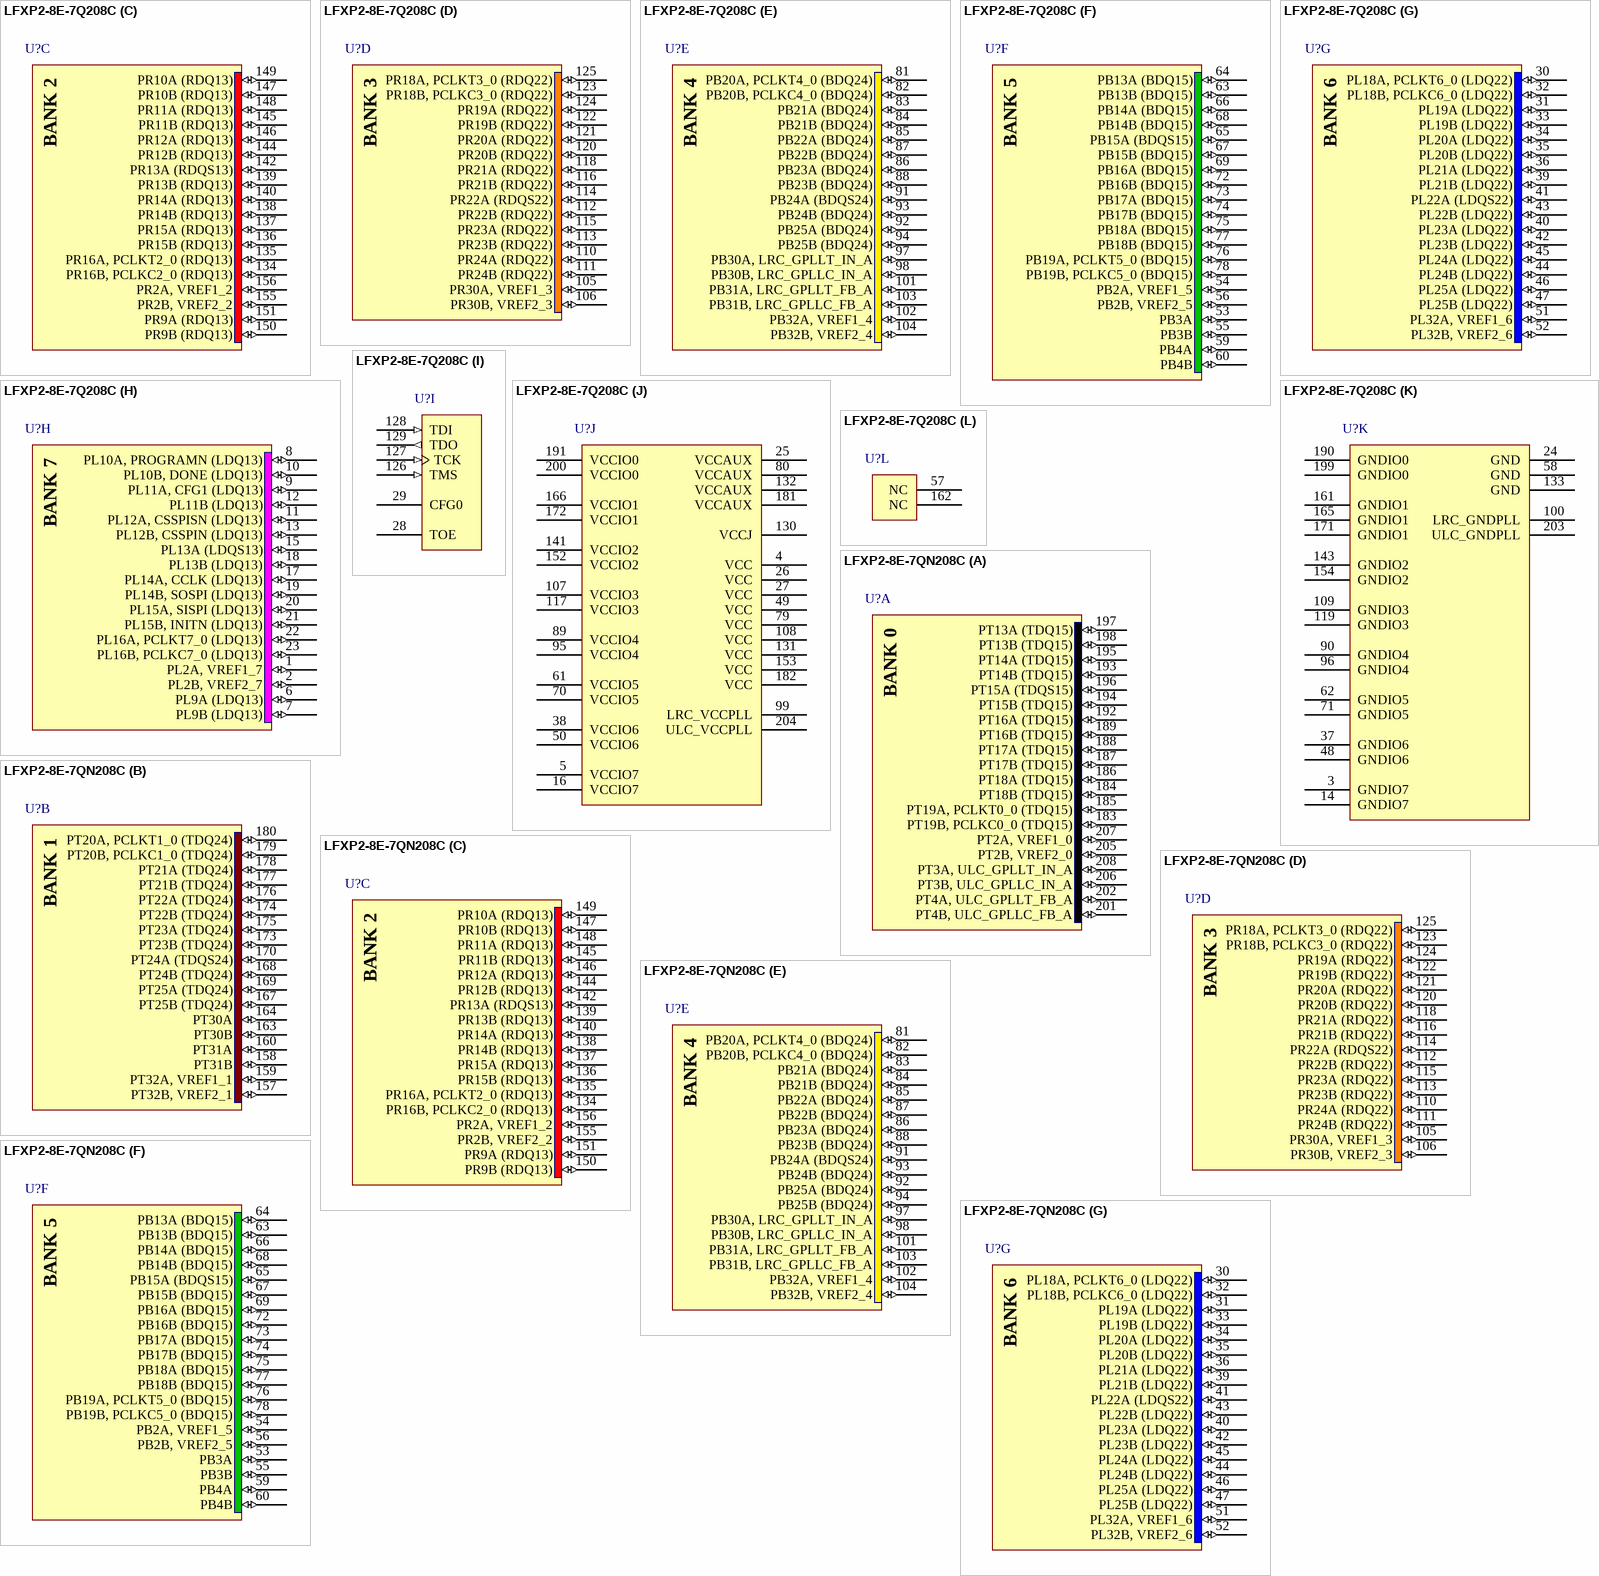
[diagram p49: symbols LFXP2-8E-7Q208C to LFXP2-8E-7QN208C]

## LFXP2-8E-7Q208C
designator U?
XP2, 1.2V FPGA, 146 I/Os, 8K LUTs, 208-Pin PQFP, Speed Grade 7, Commercial Grade; Published: 18-Jun-2008; DatasheetVersion: ver01.8, Jun-2008; PackageVersion: ver01.6 Apr-2008; PackageReference: PQFP208; Publisher: Altium Limited; PackageDescription: 208-Pin Plastic Quad Flat Pack (PQFP208); Code_JEDEC: MO-143-FAI; ComponentLink1Description: Manufacturer Link; ComponentLink1URL: http://www.latticesemi.com/products/fpga/xp2/index.cfm; ComponentLink2Description: Datasheet; ComponentLink2URL: http://www.latticesemi.com/documents/DS1009.pdf; ComponentLink3Description: Packaging Specification; ComponentLink3URL: http://www.latticesemi.com/lit/docs/package/pkg.pdf
footprint PQFP208_N (Shrink QFP, 208-Leads, Body 28x28mm, Pitch 0.5mm, IPC Medium Density)
footprint PQFP208_L (Shrink QFP, 208-Leads, Body 28x28mm, Pitch 0.5mm, IPC High Density)
footprint PQFP208_M (Shrink QFP, 208-Leads, Body 28x28mm, Pitch 0.5mm, IPC Low Density)
3D model LFXP2-8E-Q208 (208-Pin Plastic Quad Flat Pack (PQFP208))
part A pins: 183 PT19B, PCLKC0_0 (TDQ15) (io), 184 PT18B (TDQ15) (io), 185 PT19A, PCLKT0_0 (TDQ15) (io), 186 PT18A (TDQ15) (io), 187 PT17B (TDQ15) (io), 188 PT17A (TDQ15) (io), 189 PT16B (TDQ15) (io), 192 PT16A (TDQ15) (io), 193 PT14B (TDQ15) (io), 194 PT15B (TDQ15) (io), 195 PT14A (TDQ15) (io), 196 PT15A (TDQS15) (io), 197 PT13A (TDQ15) (io), 198 PT13B (TDQ15) (io), 201 PT4B, ULC_GPLLC_FB_A (io), 202 PT4A, ULC_GPLLT_FB_A (io), 205 PT2B, VREF2_0 (io), 206 PT3B, ULC_GPLLC_IN_A (io), 207 PT2A, VREF1_0 (io), 208 PT3A, ULC_GPLLT_IN_A (io)
part B pins: 157 PT32B, VREF2_1 (io), 158 PT31B (io), 159 PT32A, VREF1_1 (io), 160 PT31A (io), 163 PT30B (io), 164 PT30A (io), 167 PT25B (TDQ24) (io), 168 PT24B (TDQ24) (io), 169 PT25A (TDQ24) (io), 170 PT24A (TDQS24) (io), 173 PT23B (TDQ24) (io), 174 PT22B (TDQ24) (io), 175 PT23A (TDQ24) (io), 176 PT22A (TDQ24) (io), 177 PT21B (TDQ24) (io), 178 PT21A (TDQ24) (io), 179 PT20B, PCLKC1_0 (TDQ24) (io), 180 PT20A, PCLKT1_0 (TDQ24) (io)
part C pins: 134 PR16B, PCLKC2_0 (RDQ13) (io), 135 PR16A, PCLKT2_0 (RDQ13) (io), 136 PR15B (RDQ13) (io), 137 PR15A (RDQ13) (io), 138 PR14B (RDQ13) (io), 139 PR13B (RDQ13) (io), 140 PR14A (RDQ13) (io), 142 PR13A (RDQS13) (io), 144 PR12B (RDQ13) (io), 145 PR11B (RDQ13) (io), 146 PR12A (RDQ13) (io), 147 PR10B (RDQ13) (io), 148 PR11A (RDQ13) (io), 149 PR10A (RDQ13) (io), 150 PR9B (RDQ13) (io), 151 PR9A (RDQ13) (io), 155 PR2B, VREF2_2 (io), 156 PR2A, VREF1_2 (io)
part D pins: 105 PR30A, VREF1_3 (io), 106 PR30B, VREF2_3 (io), 110 PR24A (RDQ22) (io), 111 PR24B (RDQ22) (io), 112 PR22B (RDQ22) (io), 113 PR23B (RDQ22) (io), 114 PR22A (RDQS22) (io), 115 PR23A (RDQ22) (io), 116 PR21B (RDQ22) (io), 118 PR21A (RDQ22) (io), 120 PR20B (RDQ22) (io), 121 PR20A (RDQ22) (io), 122 PR19B (RDQ22) (io), 123 PR18B, PCLKC3_0 (RDQ22) (io), 124 PR19A (RDQ22) (io), 125 PR18A, PCLKT3_0 (RDQ22) (io)
part E pins: 81 PB20A, PCLKT4_0 (BDQ24) (io), 82 PB20B, PCLKC4_0 (BDQ24) (io), 83 PB21A (BDQ24) (io), 84 PB21B (BDQ24) (io), 85 PB22A (BDQ24) (io), 86 PB23A (BDQ24) (io), 87 PB22B (BDQ24) (io), 88 PB23B (BDQ24) (io), 91 PB24A (BDQS24) (io), 92 PB25A (BDQ24) (io), 93 PB24B (BDQ24) (io), 94 PB25B (BDQ24) (io), 97 PB30A, LRC_GPLLT_IN_A (io), 98 PB30B, LRC_GPLLC_IN_A (io), 101 PB31A, LRC_GPLLT_FB_A (io), 102 PB32A, VREF1_4 (io), 103 PB31B, LRC_GPLLC_FB_A (io), 104 PB32B, VREF2_4 (io)
part F pins: 53 PB3A (io), 54 PB2A, VREF1_5 (io), 55 PB3B (io), 56 PB2B, VREF2_5 (io), 59 PB4A (io), 60 PB4B (io), 63 PB13B (BDQ15) (io), 64 PB13A (BDQ15) (io), 65 PB15A (BDQS15) (io), 66 PB14A (BDQ15) (io), 67 PB15B (BDQ15) (io), 68 PB14B (BDQ15) (io), 69 PB16A (BDQ15) (io), 72 PB16B (BDQ15) (io), 73 PB17A (BDQ15) (io), 74 PB17B (BDQ15) (io), 75 PB18A (BDQ15) (io), 76 PB19A, PCLKT5_0 (BDQ15) (io), 77 PB18B (BDQ15) (io), 78 PB19B, PCLKC5_0 (BDQ15) (io)
part G pins: 30 PL18A, PCLKT6_0 (LDQ22) (io), 31 PL19A (LDQ22) (io), 32 PL18B, PCLKC6_0 (LDQ22) (io), 33 PL19B (LDQ22) (io), 34 PL20A (LDQ22) (io), 35 PL20B (LDQ22) (io), 36 PL21A (LDQ22) (io), 39 PL21B (LDQ22) (io), 40 PL23A (LDQ22) (io), 41 PL22A (LDQS22) (io), 42 PL23B (LDQ22) (io), 43 PL22B (LDQ22) (io), 44 PL24B (LDQ22) (io), 45 PL24A (LDQ22) (io), 46 PL25A (LDQ22) (io), 47 PL25B (LDQ22) (io), 51 PL32A, VREF1_6 (io), 52 PL32B, VREF2_6 (io)
part H pins: 1 PL2A, VREF1_7 (io), 2 PL2B, VREF2_7 (io), 6 PL9A (LDQ13) (io), 7 PL9B (LDQ13) (io), 8 PL10A, PROGRAMN (LDQ13) (io), 9 PL11A, CFG1 (LDQ13) (io), 10 PL10B, DONE (LDQ13) (io), 11 PL12A, CSSPISN (LDQ13) (io), 12 PL11B (LDQ13) (io), 13 PL12B, CSSPIN (LDQ13) (io), 15 PL13A (LDQS13) (io), 17 PL14A, CCLK (LDQ13) (io), 18 PL13B (LDQ13) (io), 19 PL14B, SOSPI (LDQ13) (io), 20 PL15A, SISPI (LDQ13) (io), 21 PL15B, INITN (LDQ13) (io), 22 PL16A, PCLKT7_0 (LDQ13) (io), 23 PL16B, PCLKC7_0 (LDQ13) (io)
part I pins: 28 TOE, 29 CFG0, 126 TMS (in), 127 TCK (in), 128 TDI (in), 129 TDO (out)
part J pins: 4 VCC (power), 5 VCCIO7 (power), 16 VCCIO7 (power), 25 VCCAUX (power), 26 VCC (power), 27 VCC (power), 38 VCCIO6 (power), 49 VCC (power), 50 VCCIO6 (power), 61 VCCIO5 (power), 70 VCCIO5 (power), 79 VCC (power), 80 VCCAUX (power), 89 VCCIO4 (power), 95 VCCIO4 (power), 99 LRC_VCCPLL (power), 107 VCCIO3 (power), 108 VCC (power), 117 VCCIO3 (power), 130 VCCJ (power), 131 VCC (power), 132 VCCAUX (power), 141 VCCIO2 (power), 152 VCCIO2 (power), 153 VCC (power), 166 VCCIO1 (power), 172 VCCIO1 (power), 181 VCCAUX (power), 182 VCC (power), 191 VCCIO0 (power), 200 VCCIO0 (power), 204 ULC_VCCPLL (power)
part K pins: 3 GNDIO7 (power), 14 GNDIO7 (power), 24 GND (power), 37 GNDIO6 (power), 48 GNDIO6 (power), 58 GND (power), 62 GNDIO5 (power), 71 GNDIO5 (power), 90 GNDIO4 (power), 96 GNDIO4 (power), 100 LRC_GNDPLL (power), 109 GNDIO3 (power), 119 GNDIO3 (power), 133 GND (power), 143 GNDIO2 (power), 154 GNDIO2 (power), 161 GNDIO1 (power), 165 GNDIO1 (power), 171 GNDIO1 (power), 190 GNDIO0 (power), 199 GNDIO0 (power), 203 ULC_GNDPLL (power)
part L pins: 57 NC, 162 NC
part A text: BANK 0
part B text: BANK 1
part C text: BANK 2
part D text: BANK 3
part E text: BANK 4
part F text: BANK 5
part G text: BANK 6
part H text: BANK 7

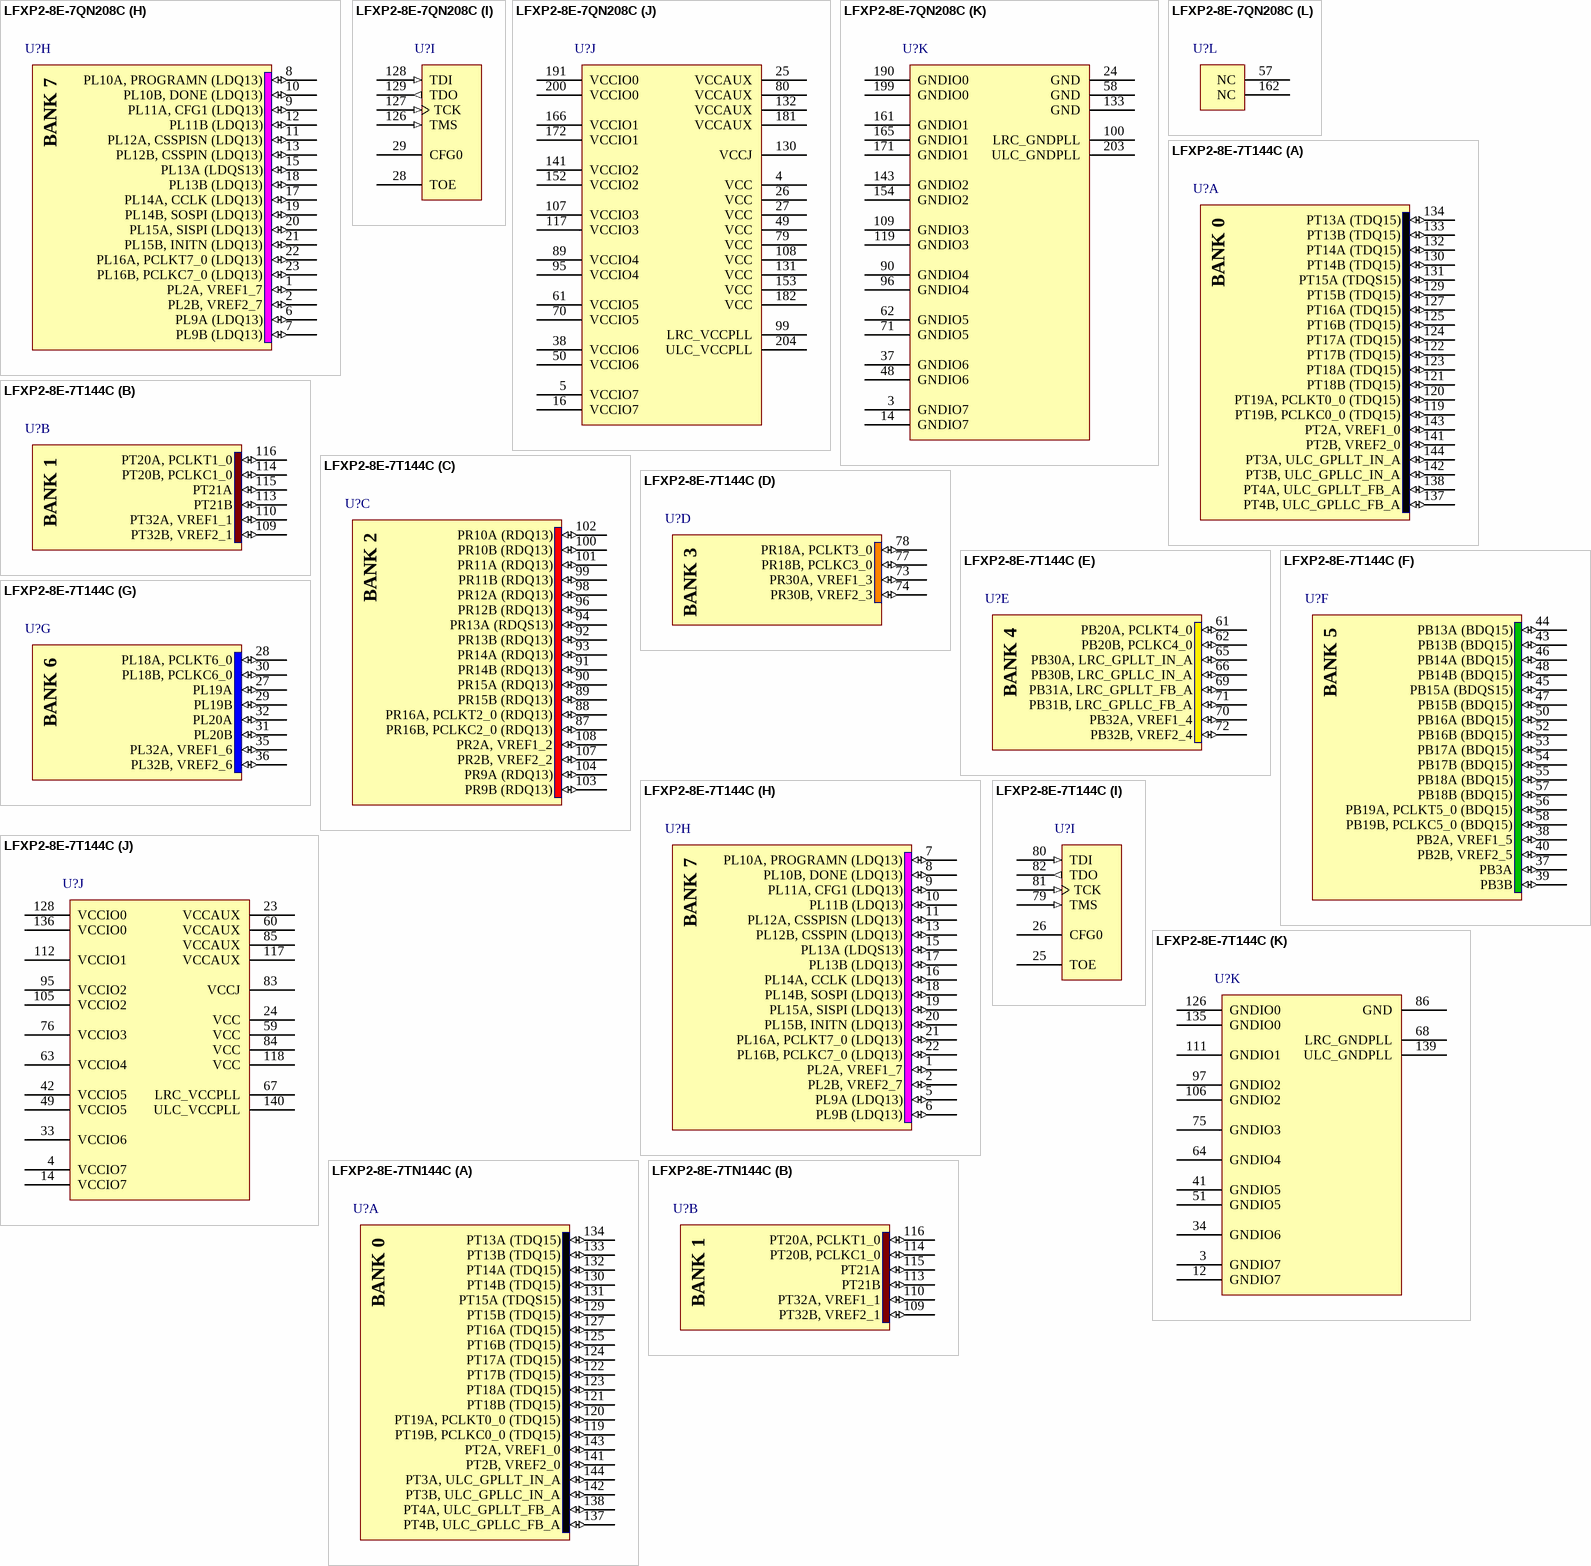
[diagram p50: symbols LFXP2-8E-7QN208C to LFXP2-8E-7TN144C]

## LFXP2-8E-7QN208C
designator U?
XP2, 1.2V FPGA, 146 I/Os, 8K LUTs, 208-Pin PQFP, Speed Grade 7, Commercial Grade, Pb-Free; Published: 18-Jun-2008; DatasheetVersion: ver01.8, Jun-2008; PackageVersion: ver01.6 Apr-2008; PackageReference: PQFP208; Publisher: Altium Limited; PackageDescription: 208-Pin Plastic Quad Flat Pack (PQFP208); Code_JEDEC: MO-143-FAI; ComponentLink1Description: Manufacturer Link; ComponentLink1URL: http://www.latticesemi.com/products/fpga/xp2/index.cfm; ComponentLink2Description: Datasheet; ComponentLink2URL: http://www.latticesemi.com/documents/DS1009.pdf; ComponentLink3Description: Packaging Specification; ComponentLink3URL: http://www.latticesemi.com/lit/docs/package/pkg.pdf
footprint PQFP208_N (Shrink QFP, 208-Leads, Body 28x28mm, Pitch 0.5mm, IPC Medium Density)
footprint PQFP208_L (Shrink QFP, 208-Leads, Body 28x28mm, Pitch 0.5mm, IPC High Density)
footprint PQFP208_M (Shrink QFP, 208-Leads, Body 28x28mm, Pitch 0.5mm, IPC Low Density)
3D model LFXP2-8E-Q208 (208-Pin Plastic Quad Flat Pack (PQFP208))
part A pins: 183 PT19B, PCLKC0_0 (TDQ15) (io), 184 PT18B (TDQ15) (io), 185 PT19A, PCLKT0_0 (TDQ15) (io), 186 PT18A (TDQ15) (io), 187 PT17B (TDQ15) (io), 188 PT17A (TDQ15) (io), 189 PT16B (TDQ15) (io), 192 PT16A (TDQ15) (io), 193 PT14B (TDQ15) (io), 194 PT15B (TDQ15) (io), 195 PT14A (TDQ15) (io), 196 PT15A (TDQS15) (io), 197 PT13A (TDQ15) (io), 198 PT13B (TDQ15) (io), 201 PT4B, ULC_GPLLC_FB_A (io), 202 PT4A, ULC_GPLLT_FB_A (io), 205 PT2B, VREF2_0 (io), 206 PT3B, ULC_GPLLC_IN_A (io), 207 PT2A, VREF1_0 (io), 208 PT3A, ULC_GPLLT_IN_A (io)
part B pins: 157 PT32B, VREF2_1 (io), 158 PT31B (io), 159 PT32A, VREF1_1 (io), 160 PT31A (io), 163 PT30B (io), 164 PT30A (io), 167 PT25B (TDQ24) (io), 168 PT24B (TDQ24) (io), 169 PT25A (TDQ24) (io), 170 PT24A (TDQS24) (io), 173 PT23B (TDQ24) (io), 174 PT22B (TDQ24) (io), 175 PT23A (TDQ24) (io), 176 PT22A (TDQ24) (io), 177 PT21B (TDQ24) (io), 178 PT21A (TDQ24) (io), 179 PT20B, PCLKC1_0 (TDQ24) (io), 180 PT20A, PCLKT1_0 (TDQ24) (io)
part C pins: 134 PR16B, PCLKC2_0 (RDQ13) (io), 135 PR16A, PCLKT2_0 (RDQ13) (io), 136 PR15B (RDQ13) (io), 137 PR15A (RDQ13) (io), 138 PR14B (RDQ13) (io), 139 PR13B (RDQ13) (io), 140 PR14A (RDQ13) (io), 142 PR13A (RDQS13) (io), 144 PR12B (RDQ13) (io), 145 PR11B (RDQ13) (io), 146 PR12A (RDQ13) (io), 147 PR10B (RDQ13) (io), 148 PR11A (RDQ13) (io), 149 PR10A (RDQ13) (io), 150 PR9B (RDQ13) (io), 151 PR9A (RDQ13) (io), 155 PR2B, VREF2_2 (io), 156 PR2A, VREF1_2 (io)
part D pins: 105 PR30A, VREF1_3 (io), 106 PR30B, VREF2_3 (io), 110 PR24A (RDQ22) (io), 111 PR24B (RDQ22) (io), 112 PR22B (RDQ22) (io), 113 PR23B (RDQ22) (io), 114 PR22A (RDQS22) (io), 115 PR23A (RDQ22) (io), 116 PR21B (RDQ22) (io), 118 PR21A (RDQ22) (io), 120 PR20B (RDQ22) (io), 121 PR20A (RDQ22) (io), 122 PR19B (RDQ22) (io), 123 PR18B, PCLKC3_0 (RDQ22) (io), 124 PR19A (RDQ22) (io), 125 PR18A, PCLKT3_0 (RDQ22) (io)
part E pins: 81 PB20A, PCLKT4_0 (BDQ24) (io), 82 PB20B, PCLKC4_0 (BDQ24) (io), 83 PB21A (BDQ24) (io), 84 PB21B (BDQ24) (io), 85 PB22A (BDQ24) (io), 86 PB23A (BDQ24) (io), 87 PB22B (BDQ24) (io), 88 PB23B (BDQ24) (io), 91 PB24A (BDQS24) (io), 92 PB25A (BDQ24) (io), 93 PB24B (BDQ24) (io), 94 PB25B (BDQ24) (io), 97 PB30A, LRC_GPLLT_IN_A (io), 98 PB30B, LRC_GPLLC_IN_A (io), 101 PB31A, LRC_GPLLT_FB_A (io), 102 PB32A, VREF1_4 (io), 103 PB31B, LRC_GPLLC_FB_A (io), 104 PB32B, VREF2_4 (io)
part F pins: 53 PB3A (io), 54 PB2A, VREF1_5 (io), 55 PB3B (io), 56 PB2B, VREF2_5 (io), 59 PB4A (io), 60 PB4B (io), 63 PB13B (BDQ15) (io), 64 PB13A (BDQ15) (io), 65 PB15A (BDQS15) (io), 66 PB14A (BDQ15) (io), 67 PB15B (BDQ15) (io), 68 PB14B (BDQ15) (io), 69 PB16A (BDQ15) (io), 72 PB16B (BDQ15) (io), 73 PB17A (BDQ15) (io), 74 PB17B (BDQ15) (io), 75 PB18A (BDQ15) (io), 76 PB19A, PCLKT5_0 (BDQ15) (io), 77 PB18B (BDQ15) (io), 78 PB19B, PCLKC5_0 (BDQ15) (io)
part G pins: 30 PL18A, PCLKT6_0 (LDQ22) (io), 31 PL19A (LDQ22) (io), 32 PL18B, PCLKC6_0 (LDQ22) (io), 33 PL19B (LDQ22) (io), 34 PL20A (LDQ22) (io), 35 PL20B (LDQ22) (io), 36 PL21A (LDQ22) (io), 39 PL21B (LDQ22) (io), 40 PL23A (LDQ22) (io), 41 PL22A (LDQS22) (io), 42 PL23B (LDQ22) (io), 43 PL22B (LDQ22) (io), 44 PL24B (LDQ22) (io), 45 PL24A (LDQ22) (io), 46 PL25A (LDQ22) (io), 47 PL25B (LDQ22) (io), 51 PL32A, VREF1_6 (io), 52 PL32B, VREF2_6 (io)
part H pins: 1 PL2A, VREF1_7 (io), 2 PL2B, VREF2_7 (io), 6 PL9A (LDQ13) (io), 7 PL9B (LDQ13) (io), 8 PL10A, PROGRAMN (LDQ13) (io), 9 PL11A, CFG1 (LDQ13) (io), 10 PL10B, DONE (LDQ13) (io), 11 PL12A, CSSPISN (LDQ13) (io), 12 PL11B (LDQ13) (io), 13 PL12B, CSSPIN (LDQ13) (io), 15 PL13A (LDQS13) (io), 17 PL14A, CCLK (LDQ13) (io), 18 PL13B (LDQ13) (io), 19 PL14B, SOSPI (LDQ13) (io), 20 PL15A, SISPI (LDQ13) (io), 21 PL15B, INITN (LDQ13) (io), 22 PL16A, PCLKT7_0 (LDQ13) (io), 23 PL16B, PCLKC7_0 (LDQ13) (io)
part I pins: 28 TOE, 29 CFG0, 126 TMS (in), 127 TCK (in), 128 TDI (in), 129 TDO (out)
part J pins: 4 VCC (power), 5 VCCIO7 (power), 16 VCCIO7 (power), 25 VCCAUX (power), 26 VCC (power), 27 VCC (power), 38 VCCIO6 (power), 49 VCC (power), 50 VCCIO6 (power), 61 VCCIO5 (power), 70 VCCIO5 (power), 79 VCC (power), 80 VCCAUX (power), 89 VCCIO4 (power), 95 VCCIO4 (power), 99 LRC_VCCPLL (power), 107 VCCIO3 (power), 108 VCC (power), 117 VCCIO3 (power), 130 VCCJ (power), 131 VCC (power), 132 VCCAUX (power), 141 VCCIO2 (power), 152 VCCIO2 (power), 153 VCC (power), 166 VCCIO1 (power), 172 VCCIO1 (power), 181 VCCAUX (power), 182 VCC (power), 191 VCCIO0 (power), 200 VCCIO0 (power), 204 ULC_VCCPLL (power)
part K pins: 3 GNDIO7 (power), 14 GNDIO7 (power), 24 GND (power), 37 GNDIO6 (power), 48 GNDIO6 (power), 58 GND (power), 62 GNDIO5 (power), 71 GNDIO5 (power), 90 GNDIO4 (power), 96 GNDIO4 (power), 100 LRC_GNDPLL (power), 109 GNDIO3 (power), 119 GNDIO3 (power), 133 GND (power), 143 GNDIO2 (power), 154 GNDIO2 (power), 161 GNDIO1 (power), 165 GNDIO1 (power), 171 GNDIO1 (power), 190 GNDIO0 (power), 199 GNDIO0 (power), 203 ULC_GNDPLL (power)
part L pins: 57 NC, 162 NC
part A text: BANK 0
part B text: BANK 1
part C text: BANK 2
part D text: BANK 3
part E text: BANK 4
part F text: BANK 5
part G text: BANK 6
part H text: BANK 7

## LFXP2-8E-7T144C
designator U?
XP2, 1.2V FPGA, 100 I/Os, 8K LUTs, 144-Pin TQFP, Speed Grade 7, Commercial Grade; Published: 18-Jun-2008; DatasheetVersion: ver01.8, Jun-2008; PackageVersion: ver01.6 Apr-2008; PackageReference: TQFP144; Publisher: Altium Limited; PackageDescription: 144-Pin Thin Quad Flat Pack (TQFP144); Code_JEDEC: MS-026-BFB; ComponentLink1Description: Manufacturer Link; ComponentLink1URL: http://www.latticesemi.com/products/fpga/xp2/index.cfm; ComponentLink2Description: Datasheet; ComponentLink2URL: http://www.latticesemi.com/documents/DS1009.pdf; ComponentLink3Description: Packaging Specification; ComponentLink3URL: http://www.latticesemi.com/lit/docs/package/pkg.pdf
footprint TQFP144_N (Thin QFP, 144-Leads, Body 20x20mm, Pitch 0.5mm, IPC Medium Density)
footprint TQFP144_L (Thin QFP, 144-Leads, Body 20x20mm, Pitch 0.5mm, IPC High Density)
footprint TQFP144_M (Thin QFP, 144-Leads, Body 20x20mm, Pitch 0.5mm, IPC Low Density)
3D model LFXP2-8E-T144 (144-Pin Thin Quad Flat Pack (TQFP144))
part A pins: 119 PT19B, PCLKC0_0 (TDQ15) (io), 120 PT19A, PCLKT0_0 (TDQ15) (io), 121 PT18B (TDQ15) (io), 122 PT17B (TDQ15) (io), 123 PT18A (TDQ15) (io), 124 PT17A (TDQ15) (io), 125 PT16B (TDQ15) (io), 127 PT16A (TDQ15) (io), 129 PT15B (TDQ15) (io), 130 PT14B (TDQ15) (io), 131 PT15A (TDQS15) (io), 132 PT14A (TDQ15) (io), 133 PT13B (TDQ15) (io), 134 PT13A (TDQ15) (io), 137 PT4B, ULC_GPLLC_FB_A (io), 138 PT4A, ULC_GPLLT_FB_A (io), 141 PT2B, VREF2_0 (io), 142 PT3B, ULC_GPLLC_IN_A (io), 143 PT2A, VREF1_0 (io), 144 PT3A, ULC_GPLLT_IN_A (io)
part B pins: 109 PT32B, VREF2_1 (io), 110 PT32A, VREF1_1 (io), 113 PT21B (io), 114 PT20B, PCLKC1_0 (io), 115 PT21A (io), 116 PT20A, PCLKT1_0 (io)
part C pins: 87 PR16B, PCLKC2_0 (RDQ13) (io), 88 PR16A, PCLKT2_0 (RDQ13) (io), 89 PR15B (RDQ13) (io), 90 PR15A (RDQ13) (io), 91 PR14B (RDQ13) (io), 92 PR13B (RDQ13) (io), 93 PR14A (RDQ13) (io), 94 PR13A (RDQS13) (io), 96 PR12B (RDQ13) (io), 98 PR12A (RDQ13) (io), 99 PR11B (RDQ13) (io), 100 PR10B (RDQ13) (io), 101 PR11A (RDQ13) (io), 102 PR10A (RDQ13) (io), 103 PR9B (RDQ13) (io), 104 PR9A (RDQ13) (io), 107 PR2B, VREF2_2 (io), 108 PR2A, VREF1_2 (io)
part D pins: 73 PR30A, VREF1_3 (io), 74 PR30B, VREF2_3 (io), 77 PR18B, PCLKC3_0 (io), 78 PR18A, PCLKT3_0 (io)
part E pins: 61 PB20A, PCLKT4_0 (io), 62 PB20B, PCLKC4_0 (io), 65 PB30A, LRC_GPLLT_IN_A (io), 66 PB30B, LRC_GPLLC_IN_A (io), 69 PB31A, LRC_GPLLT_FB_A (io), 70 PB32A, VREF1_4 (io), 71 PB31B, LRC_GPLLC_FB_A (io), 72 PB32B, VREF2_4 (io)
part F pins: 37 PB3A (io), 38 PB2A, VREF1_5 (io), 39 PB3B (io), 40 PB2B, VREF2_5 (io), 43 PB13B (BDQ15) (io), 44 PB13A (BDQ15) (io), 45 PB15A (BDQS15) (io), 46 PB14A (BDQ15) (io), 47 PB15B (BDQ15) (io), 48 PB14B (BDQ15) (io), 50 PB16A (BDQ15) (io), 52 PB16B (BDQ15) (io), 53 PB17A (BDQ15) (io), 54 PB17B (BDQ15) (io), 55 PB18A (BDQ15) (io), 56 PB19A, PCLKT5_0 (BDQ15) (io), 57 PB18B (BDQ15) (io), 58 PB19B, PCLKC5_0 (BDQ15) (io)
part G pins: 27 PL19A (io), 28 PL18A, PCLKT6_0 (io), 29 PL19B (io), 30 PL18B, PCLKC6_0 (io), 31 PL20B (io), 32 PL20A (io), 35 PL32A, VREF1_6 (io), 36 PL32B, VREF2_6 (io)
part H pins: 1 PL2A, VREF1_7 (io), 2 PL2B, VREF2_7 (io), 5 PL9A (LDQ13) (io), 6 PL9B (LDQ13) (io), 7 PL10A, PROGRAMN (LDQ13) (io), 8 PL10B, DONE (LDQ13) (io), 9 PL11A, CFG1 (LDQ13) (io), 10 PL11B (LDQ13) (io), 11 PL12A, CSSPISN (LDQ13) (io), 13 PL12B, CSSPIN (LDQ13) (io), 15 PL13A (LDQS13) (io), 16 PL14A, CCLK (LDQ13) (io), 17 PL13B (LDQ13) (io), 18 PL14B, SOSPI (LDQ13) (io), 19 PL15A, SISPI (LDQ13) (io), 20 PL15B, INITN (LDQ13) (io), 21 PL16A, PCLKT7_0 (LDQ13) (io), 22 PL16B, PCLKC7_0 (LDQ13) (io)
part I pins: 25 TOE, 26 CFG0, 79 TMS (in), 80 TDI (in), 81 TCK (in), 82 TDO (out)
part J pins: 4 VCCIO7 (power), 14 VCCIO7 (power), 23 VCCAUX (power), 24 VCC (power), 33 VCCIO6 (power), 42 VCCIO5 (power), 49 VCCIO5 (power), 59 VCC (power), 60 VCCAUX (power), 63 VCCIO4 (power), 67 LRC_VCCPLL (power), 76 VCCIO3 (power), 83 VCCJ (power), 84 VCC (power), 85 VCCAUX (power), 95 VCCIO2 (power), 105 VCCIO2 (power), 112 VCCIO1 (power), 117 VCCAUX (power), 118 VCC (power), 128 VCCIO0 (power), 136 VCCIO0 (power), 140 ULC_VCCPLL (power)
part K pins: 3 GNDIO7 (power), 12 GNDIO7 (power), 34 GNDIO6 (power), 41 GNDIO5 (power), 51 GNDIO5 (power), 64 GNDIO4 (power), 68 LRC_GNDPLL (power), 75 GNDIO3 (power), 86 GND (power), 97 GNDIO2 (power), 106 GNDIO2 (power), 111 GNDIO1 (power), 126 GNDIO0 (power), 135 GNDIO0 (power), 139 ULC_GNDPLL (power)
part A text: BANK 0
part B text: BANK 1
part C text: BANK 2
part D text: BANK 3
part E text: BANK 4
part F text: BANK 5
part G text: BANK 6
part H text: BANK 7

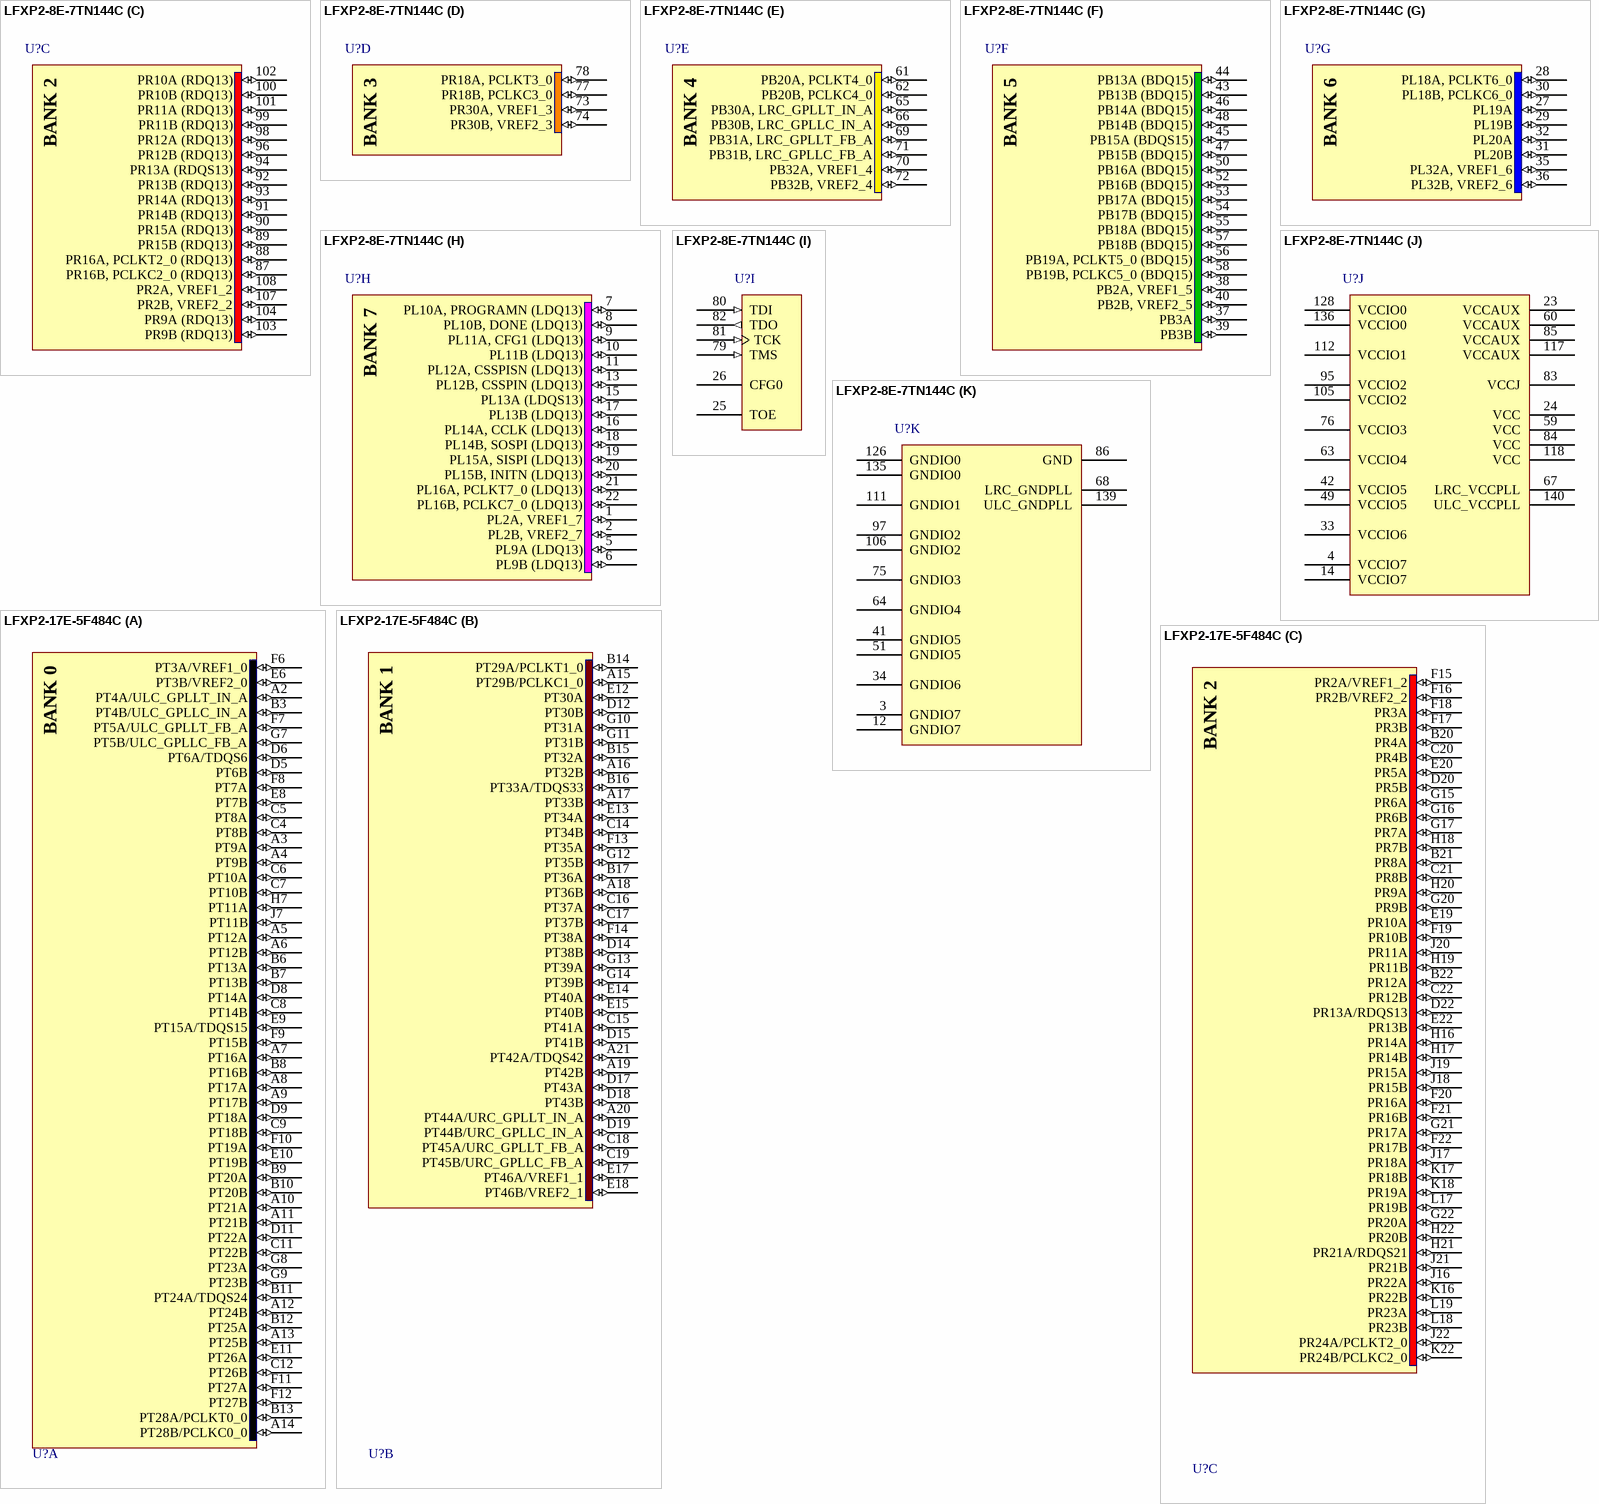
[diagram p51: symbols LFXP2-8E-7TN144C to LFXP2-17E-5F484C]

## LFXP2-8E-7TN144C
designator U?
XP2, 1.2V FPGA, 100 I/Os, 8K LUTs, 144-Pin TQFP, Speed Grade 7, Commercial Grade, Pb-Free; Published: 18-Jun-2008; DatasheetVersion: ver01.8, Jun-2008; PackageVersion: ver01.6 Apr-2008; PackageReference: TQFP144; Publisher: Altium Limited; PackageDescription: 144-Pin Thin Quad Flat Pack (TQFP144); Code_JEDEC: MS-026-BFB; ComponentLink1Description: Manufacturer Link; ComponentLink1URL: http://www.latticesemi.com/products/fpga/xp2/index.cfm; ComponentLink2Description: Datasheet; ComponentLink2URL: http://www.latticesemi.com/documents/DS1009.pdf; ComponentLink3Description: Packaging Specification; ComponentLink3URL: http://www.latticesemi.com/lit/docs/package/pkg.pdf
footprint TQFP144_N (Thin QFP, 144-Leads, Body 20x20mm, Pitch 0.5mm, IPC Medium Density)
footprint TQFP144_L (Thin QFP, 144-Leads, Body 20x20mm, Pitch 0.5mm, IPC High Density)
footprint TQFP144_M (Thin QFP, 144-Leads, Body 20x20mm, Pitch 0.5mm, IPC Low Density)
3D model LFXP2-8E-T144 (144-Pin Thin Quad Flat Pack (TQFP144))
part A pins: 119 PT19B, PCLKC0_0 (TDQ15) (io), 120 PT19A, PCLKT0_0 (TDQ15) (io), 121 PT18B (TDQ15) (io), 122 PT17B (TDQ15) (io), 123 PT18A (TDQ15) (io), 124 PT17A (TDQ15) (io), 125 PT16B (TDQ15) (io), 127 PT16A (TDQ15) (io), 129 PT15B (TDQ15) (io), 130 PT14B (TDQ15) (io), 131 PT15A (TDQS15) (io), 132 PT14A (TDQ15) (io), 133 PT13B (TDQ15) (io), 134 PT13A (TDQ15) (io), 137 PT4B, ULC_GPLLC_FB_A (io), 138 PT4A, ULC_GPLLT_FB_A (io), 141 PT2B, VREF2_0 (io), 142 PT3B, ULC_GPLLC_IN_A (io), 143 PT2A, VREF1_0 (io), 144 PT3A, ULC_GPLLT_IN_A (io)
part B pins: 109 PT32B, VREF2_1 (io), 110 PT32A, VREF1_1 (io), 113 PT21B (io), 114 PT20B, PCLKC1_0 (io), 115 PT21A (io), 116 PT20A, PCLKT1_0 (io)
part C pins: 87 PR16B, PCLKC2_0 (RDQ13) (io), 88 PR16A, PCLKT2_0 (RDQ13) (io), 89 PR15B (RDQ13) (io), 90 PR15A (RDQ13) (io), 91 PR14B (RDQ13) (io), 92 PR13B (RDQ13) (io), 93 PR14A (RDQ13) (io), 94 PR13A (RDQS13) (io), 96 PR12B (RDQ13) (io), 98 PR12A (RDQ13) (io), 99 PR11B (RDQ13) (io), 100 PR10B (RDQ13) (io), 101 PR11A (RDQ13) (io), 102 PR10A (RDQ13) (io), 103 PR9B (RDQ13) (io), 104 PR9A (RDQ13) (io), 107 PR2B, VREF2_2 (io), 108 PR2A, VREF1_2 (io)
part D pins: 73 PR30A, VREF1_3 (io), 74 PR30B, VREF2_3 (io), 77 PR18B, PCLKC3_0 (io), 78 PR18A, PCLKT3_0 (io)
part E pins: 61 PB20A, PCLKT4_0 (io), 62 PB20B, PCLKC4_0 (io), 65 PB30A, LRC_GPLLT_IN_A (io), 66 PB30B, LRC_GPLLC_IN_A (io), 69 PB31A, LRC_GPLLT_FB_A (io), 70 PB32A, VREF1_4 (io), 71 PB31B, LRC_GPLLC_FB_A (io), 72 PB32B, VREF2_4 (io)
part F pins: 37 PB3A (io), 38 PB2A, VREF1_5 (io), 39 PB3B (io), 40 PB2B, VREF2_5 (io), 43 PB13B (BDQ15) (io), 44 PB13A (BDQ15) (io), 45 PB15A (BDQS15) (io), 46 PB14A (BDQ15) (io), 47 PB15B (BDQ15) (io), 48 PB14B (BDQ15) (io), 50 PB16A (BDQ15) (io), 52 PB16B (BDQ15) (io), 53 PB17A (BDQ15) (io), 54 PB17B (BDQ15) (io), 55 PB18A (BDQ15) (io), 56 PB19A, PCLKT5_0 (BDQ15) (io), 57 PB18B (BDQ15) (io), 58 PB19B, PCLKC5_0 (BDQ15) (io)
part G pins: 27 PL19A (io), 28 PL18A, PCLKT6_0 (io), 29 PL19B (io), 30 PL18B, PCLKC6_0 (io), 31 PL20B (io), 32 PL20A (io), 35 PL32A, VREF1_6 (io), 36 PL32B, VREF2_6 (io)
part H pins: 1 PL2A, VREF1_7 (io), 2 PL2B, VREF2_7 (io), 5 PL9A (LDQ13) (io), 6 PL9B (LDQ13) (io), 7 PL10A, PROGRAMN (LDQ13) (io), 8 PL10B, DONE (LDQ13) (io), 9 PL11A, CFG1 (LDQ13) (io), 10 PL11B (LDQ13) (io), 11 PL12A, CSSPISN (LDQ13) (io), 13 PL12B, CSSPIN (LDQ13) (io), 15 PL13A (LDQS13) (io), 16 PL14A, CCLK (LDQ13) (io), 17 PL13B (LDQ13) (io), 18 PL14B, SOSPI (LDQ13) (io), 19 PL15A, SISPI (LDQ13) (io), 20 PL15B, INITN (LDQ13) (io), 21 PL16A, PCLKT7_0 (LDQ13) (io), 22 PL16B, PCLKC7_0 (LDQ13) (io)
part I pins: 25 TOE, 26 CFG0, 79 TMS (in), 80 TDI (in), 81 TCK (in), 82 TDO (out)
part J pins: 4 VCCIO7 (power), 14 VCCIO7 (power), 23 VCCAUX (power), 24 VCC (power), 33 VCCIO6 (power), 42 VCCIO5 (power), 49 VCCIO5 (power), 59 VCC (power), 60 VCCAUX (power), 63 VCCIO4 (power), 67 LRC_VCCPLL (power), 76 VCCIO3 (power), 83 VCCJ (power), 84 VCC (power), 85 VCCAUX (power), 95 VCCIO2 (power), 105 VCCIO2 (power), 112 VCCIO1 (power), 117 VCCAUX (power), 118 VCC (power), 128 VCCIO0 (power), 136 VCCIO0 (power), 140 ULC_VCCPLL (power)
part K pins: 3 GNDIO7 (power), 12 GNDIO7 (power), 34 GNDIO6 (power), 41 GNDIO5 (power), 51 GNDIO5 (power), 64 GNDIO4 (power), 68 LRC_GNDPLL (power), 75 GNDIO3 (power), 86 GND (power), 97 GNDIO2 (power), 106 GNDIO2 (power), 111 GNDIO1 (power), 126 GNDIO0 (power), 135 GNDIO0 (power), 139 ULC_GNDPLL (power)
part A text: BANK 0
part B text: BANK 1
part C text: BANK 2
part D text: BANK 3
part E text: BANK 4
part F text: BANK 5
part G text: BANK 6
part H text: BANK 7

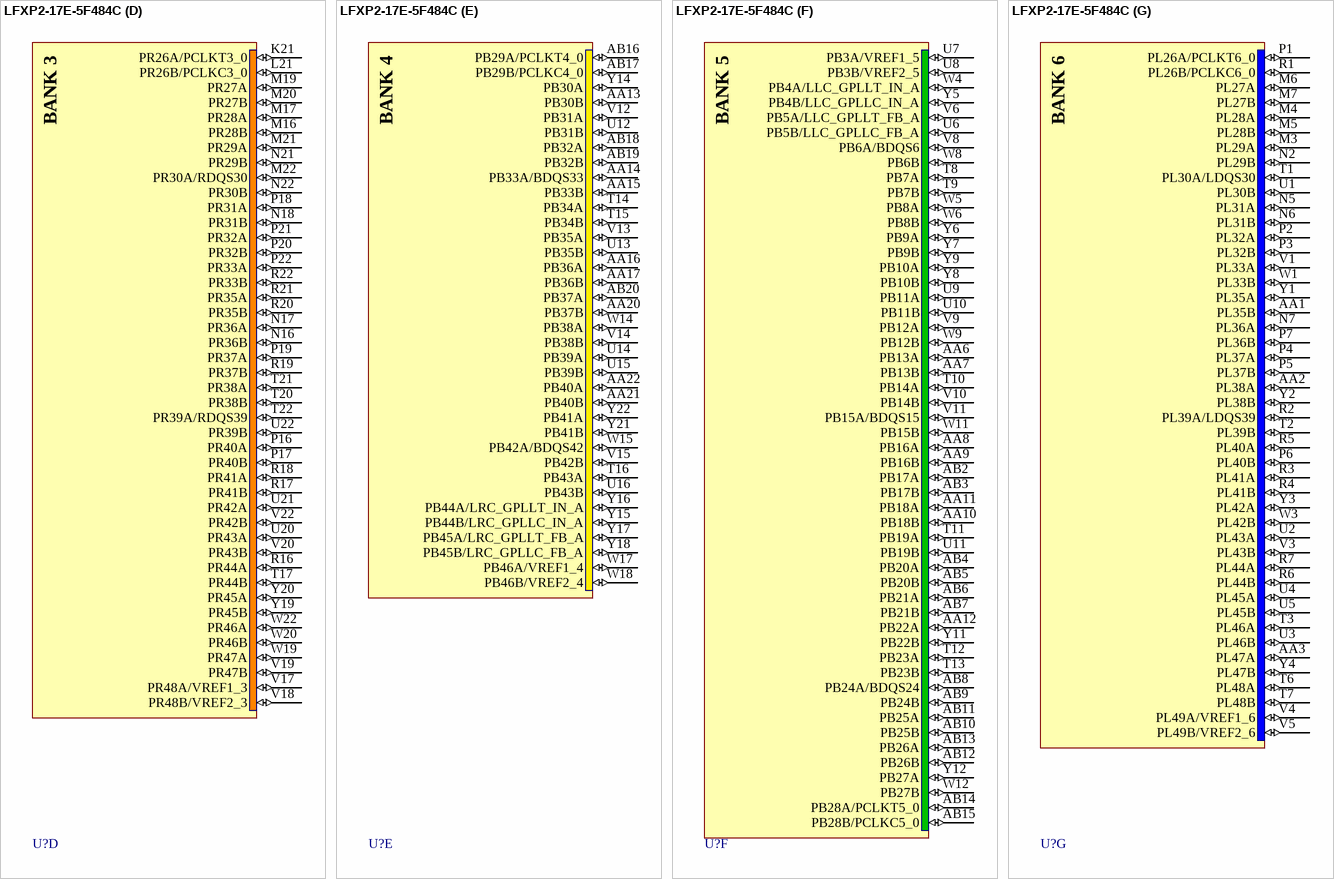
[diagram p52: symbol LFXP2-17E-5F484C]

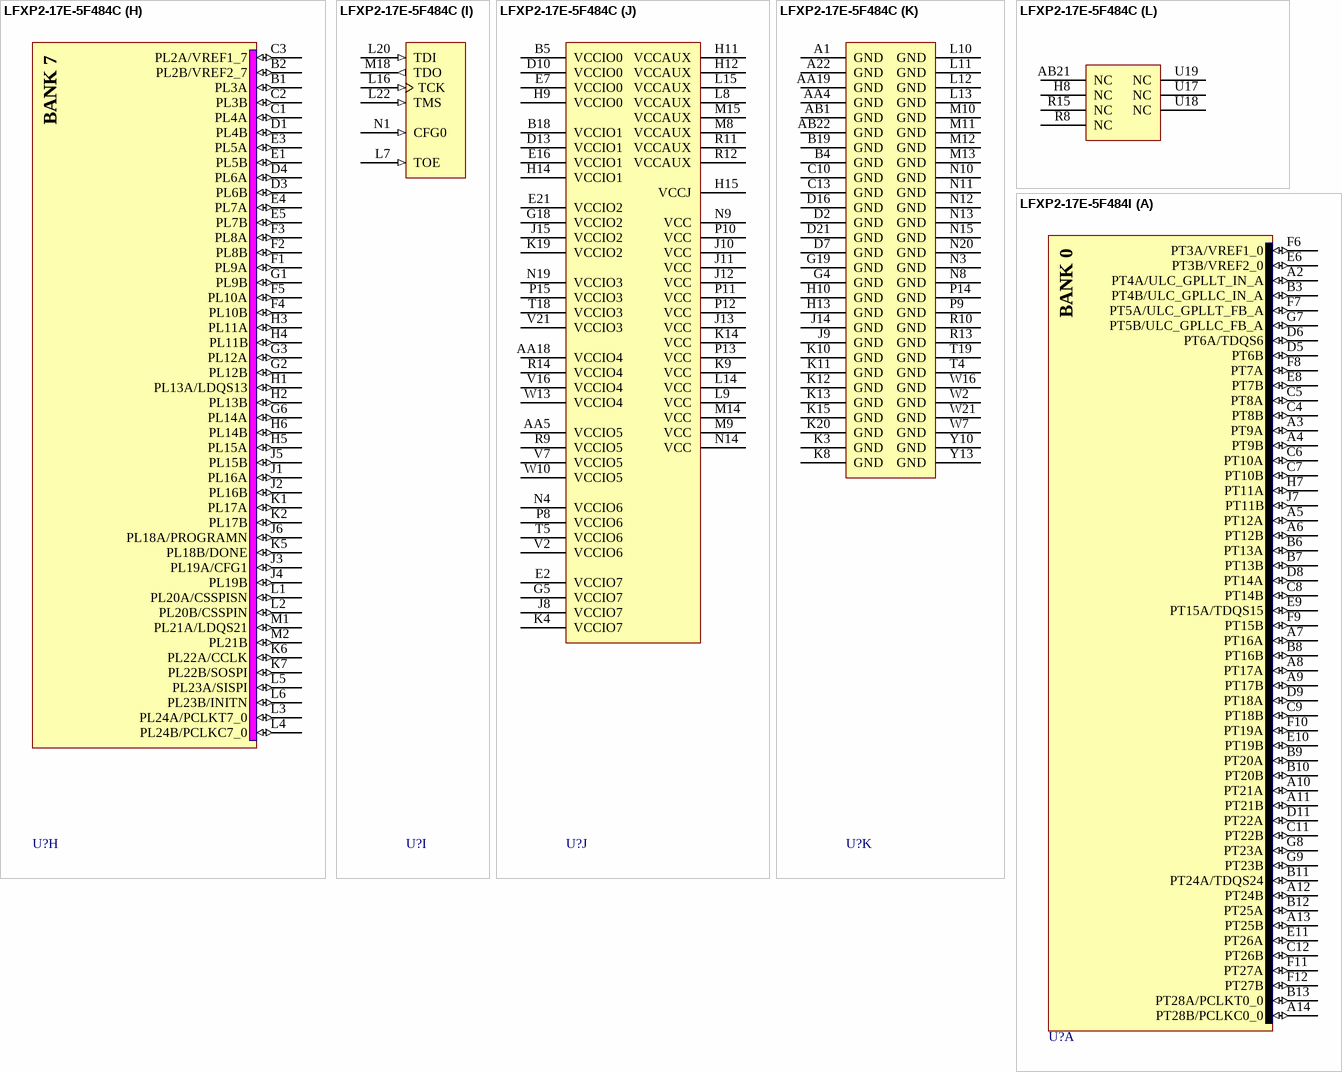
[diagram p53: symbols LFXP2-17E-5F484C to LFXP2-17E-5F484I]